# Altium schematic symbol library 74xGxx.SchLib: 165 symbols
Pins are listed as number, name and electrical type; pins without a type are passive.

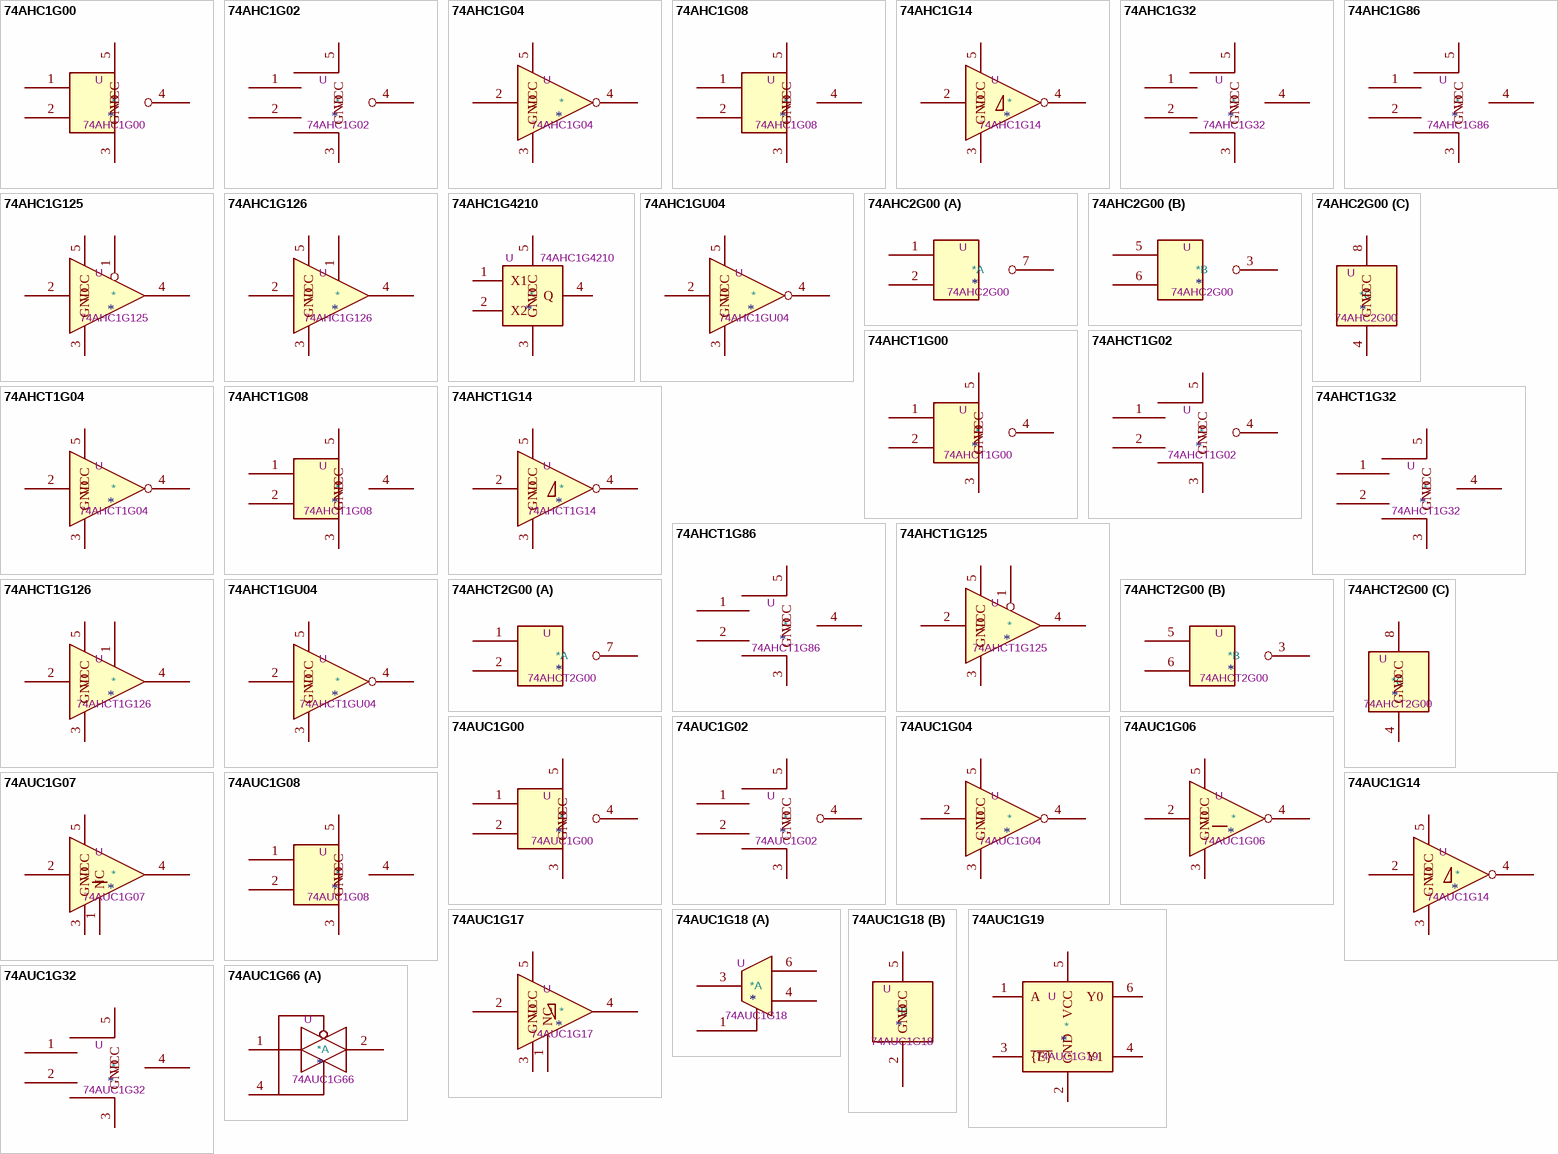
[diagram p0: symbols 74AHC1G00 to 74AUC1G66]

## 74AHC1G00
designator *  value 74AHC1G00  Reference: U
ki_keywords: Single Gate NAND LVC CMOS; ki_description: Single NAND Gate, Low-Voltage CMOS; ki_fp_filters: SOT* SG-*; Datasheet: http://www.ti.com/lit/sg/scyt129e/scyt129e.pdf
pins: 1, 2, 3 GND, 4, 5 VCC

## 74AHC1G02
designator *  value 74AHC1G02  Reference: U
ki_keywords: Single Gate NOR LVC CMOS; ki_description: Single NOR Gate, Low-Voltage CMOS; ki_fp_filters: SOT* SG-*; Datasheet: http://www.ti.com/lit/sg/scyt129e/scyt129e.pdf
pins: 1, 2, 3 GND, 4, 5 VCC

## 74AHC1G04
designator *  value 74AHC1G04  Reference: U
ki_keywords: Single Gate NOT LVC CMOS; ki_description: Single NOT Gate, Low-Voltage CMOS; ki_fp_filters: SOT* SG-*; Datasheet: http://www.ti.com/lit/sg/scyt129e/scyt129e.pdf
pins: 2, 3 GND, 4, 5 VCC

## 74AHC1G08
designator *  value 74AHC1G08  Reference: U
ki_keywords: Single Gate AND LVC CMOS; ki_description: Single AND Gate, Low-Voltage CMOS; ki_fp_filters: SOT* SG-*; Datasheet: http://www.ti.com/lit/sg/scyt129e/scyt129e.pdf
pins: 1, 2, 3 GND, 4, 5 VCC

## 74AHC1G14
designator *  value 74AHC1G14  Reference: U
ki_keywords: Single Gate NOT Schmitt LVC CMOS; ki_description: Single Schmitt NOT Gate, Low-Voltage CMOS; ki_fp_filters: SOT* SG-*; Datasheet: https://www.ti.com/lit/ds/symlink/sn74lvc1g14.pdf
pins: 2, 3 GND, 4, 5 VCC

## 74AHC1G32
designator *  value 74AHC1G32  Reference: U
ki_keywords: Single Gate OR LVC CMOS; ki_description: Single OR Gate, Low-Voltage CMOS; ki_fp_filters: SOT* SG-*; Datasheet: http://www.ti.com/lit/sg/scyt129e/scyt129e.pdf
pins: 1, 2, 3 GND, 4, 5 VCC

## 74AHC1G86
designator *  value 74AHC1G86  Reference: U
ki_keywords: Single Gate EX-OR LVC CMOS; ki_description: Single EX-OR Gate, Low-Voltage CMOS; ki_fp_filters: SOT* SG-*; Datasheet: http://www.ti.com/lit/sg/scyt129e/scyt129e.pdf
pins: 1, 2, 3 GND, 4, 5 VCC

## 74AHC1G125
designator *  value 74AHC1G125  Reference: U
ki_keywords: Single Gate Buff Tri-State LVC CMOS; ki_description: Single Buffer Gate Tri-State, Low-Voltage CMOS; ki_fp_filters: SOT* SG-*; Datasheet: http://www.ti.com/lit/sg/scyt129e/scyt129e.pdf
pins: 1, 2, 3 GND, 4, 5 VCC

## 74AHC1G126
designator *  value 74AHC1G126  Reference: U
ki_keywords: Single Gate Buff Tri-State LVC CMOS; ki_description: Single Buffer Gate Tri-State, Low-Voltage CMOS; ki_fp_filters: SOT* SG-*; Datasheet: http://www.ti.com/lit/sg/scyt129e/scyt129e.pdf
pins: 1, 2, 3 GND, 4, 5 VCC

## 74AHC1G4210
designator *  value 74AHC1G4210  Reference: U
ki_keywords: divider oscillator; ki_description: 10-stage divider and oscillator, SOT353-1; ki_fp_filters: SOT*353*; Footprint: Package_TO_SOT_SMD:SOT-353_SC-70-5; Datasheet: https://assets.nexperia.com/documents/data-sheet/74AHC1G4210.pdf
pins: 1 X1, 2 X2, 3 GND, 4 Q, 5 VCC

## 74AHC1GU04
designator *  value 74AHC1GU04  Reference: U
ki_keywords: Single Gate NOT LVC CMOS; ki_description: 74AHC1G04, Single NOT Gate, Low-Voltage CMOS; ki_fp_filters: SOT* SG-*; Datasheet: http://www.ti.com/lit/sg/scyt129e/scyt129e.pdf
pins: 2, 3 GND, 4, 5 VCC

## 74AHC2G00
designator *  value 74AHC2G00  Reference: U
ki_keywords: Dual Gate NAND LVC CMOS; ki_description: Dual NAND Gate, High-speed Si-gate CMOS; ki_fp_filters: SSOP* VSSOP*; Datasheet: https://assets.nexperia.com/documents/data-sheet/74AHC_AHCT2G00.pdf
part A pins: 1, 2, 7
part B pins: 3, 5, 6
part C pins: 4 GND, 8 VCC

## 74AHCT1G00
designator *  value 74AHCT1G00  Reference: U
ki_keywords: Single Gate NAND LVC CMOS; ki_description: Single NAND Gate, Low-Voltage CMOS; ki_fp_filters: SOT* SG-*; Datasheet: http://www.ti.com/lit/sg/scyt129e/scyt129e.pdf
pins: 1, 2, 3 GND, 4, 5 VCC

## 74AHCT1G02
designator *  value 74AHCT1G02  Reference: U
ki_keywords: Single Gate NOR LVC CMOS; ki_description: Single NOR Gate, Low-Voltage CMOS; ki_fp_filters: SOT* SG-*; Datasheet: http://www.ti.com/lit/sg/scyt129e/scyt129e.pdf
pins: 1, 2, 3 GND, 4, 5 VCC

## 74AHCT1G04
designator *  value 74AHCT1G04  Reference: U
ki_keywords: Single Gate NOT LVC CMOS; ki_description: Single NOT Gate, Low-Voltage CMOS; ki_fp_filters: SOT* SG-*; Datasheet: http://www.ti.com/lit/sg/scyt129e/scyt129e.pdf
pins: 2, 3 GND, 4, 5 VCC

## 74AHCT1G08
designator *  value 74AHCT1G08  Reference: U
ki_keywords: Single Gate AND LVC CMOS; ki_description: Single AND Gate, Low-Voltage CMOS; ki_fp_filters: SOT* SG-*; Datasheet: http://www.ti.com/lit/sg/scyt129e/scyt129e.pdf
pins: 1, 2, 3 GND, 4, 5 VCC

## 74AHCT1G14
designator *  value 74AHCT1G14  Reference: U
ki_keywords: Single Gate NOT Schmitt LVC CMOS; ki_description: Single Schmitt NOT Gate, Low-Voltage CMOS; ki_fp_filters: SOT* SG-*; Datasheet: http://www.ti.com/lit/sg/scyt129e/scyt129e.pdf
pins: 2, 3 GND, 4, 5 VCC

## 74AHCT1G32
designator *  value 74AHCT1G32  Reference: U
ki_keywords: Single Gate OR LVC CMOS; ki_description: Single OR Gate, Low-Voltage CMOS; ki_fp_filters: SOT* SG-*; Datasheet: http://www.ti.com/lit/sg/scyt129e/scyt129e.pdf
pins: 1, 2, 3 GND, 4, 5 VCC

## 74AHCT1G86
designator *  value 74AHCT1G86  Reference: U
ki_keywords: Single Gate EX-OR LVC CMOS; ki_description: Single EX-OR Gate, Low-Voltage CMOS; ki_fp_filters: SOT* SG-*; Datasheet: http://www.ti.com/lit/sg/scyt129e/scyt129e.pdf
pins: 1, 2, 3 GND, 4, 5 VCC

## 74AHCT1G125
designator *  value 74AHCT1G125  Reference: U
ki_keywords: Single Gate Buff Tri-State LVC CMOS; ki_description: Single Buffer Gate Tri-State, Low-Voltage CMOS; ki_fp_filters: SOT* SG-*; Datasheet: http://www.ti.com/lit/sg/scyt129e/scyt129e.pdf
pins: 1, 2, 3 GND, 4, 5 VCC

## 74AHCT1G126
designator *  value 74AHCT1G126  Reference: U
ki_keywords: Single Gate Buff Tri-State LVC CMOS; ki_description: Single Buffer Gate Tri-State, Low-Voltage CMOS; ki_fp_filters: SOT* SG-*; Datasheet: http://www.ti.com/lit/sg/scyt129e/scyt129e.pdf
pins: 1, 2, 3 GND, 4, 5 VCC

## 74AHCT1GU04
designator *  value 74AHCT1GU04  Reference: U
ki_keywords: Single Gate NOT LVC CMOS; ki_description: 74AHCT1G04, Single NOT Gate, Low-Voltage CMOS; ki_fp_filters: SOT* SG-*; Datasheet: http://www.ti.com/lit/sg/scyt129e/scyt129e.pdf
pins: 2, 3 GND, 4, 5 VCC

## 74AHCT2G00
designator *  value 74AHCT2G00  Reference: U
ki_keywords: Dual Gate NAND LVC CMOS; ki_description: Dual NAND Gate, TTL input High-speed Si-gate CMOS; ki_fp_filters: SSOP* VSSOP*; Datasheet: https://assets.nexperia.com/documents/data-sheet/74AHC_AHCT2G00.pdf
part A pins: 1, 2, 7
part B pins: 3, 5, 6
part C pins: 4 GND, 8 VCC

## 74AUC1G00
designator *  value 74AUC1G00  Reference: U
ki_keywords: Single Gate NAND LVC CMOS; ki_description: Single NAND Gate, Low-Voltage CMOS; ki_fp_filters: SOT* SG-*; Datasheet: http://www.ti.com/lit/sg/scyt129e/scyt129e.pdf
pins: 1, 2, 3 GND, 4, 5 VCC

## 74AUC1G02
designator *  value 74AUC1G02  Reference: U
ki_keywords: Single Gate NOR LVC CMOS; ki_description: Single NOR Gate, Low-Voltage CMOS; ki_fp_filters: SOT* SG-*; Datasheet: http://www.ti.com/lit/sg/scyt129e/scyt129e.pdf
pins: 1, 2, 3 GND, 4, 5 VCC

## 74AUC1G04
designator *  value 74AUC1G04  Reference: U
ki_keywords: Single Gate NOT LVC CMOS; ki_description: Single NOT Gate, Low-Voltage CMOS; ki_fp_filters: SOT* SG-*; Datasheet: http://www.ti.com/lit/sg/scyt129e/scyt129e.pdf
pins: 2, 3 GND, 4, 5 VCC

## 74AUC1G06
designator *  value 74AUC1G06  Reference: U
ki_keywords: Single Gate NOT LVC CMOS Open Drain; ki_description: Single NOT Gate w/ Open Drain, Low-Voltage CMOS; ki_fp_filters: SOT* SG-*; Datasheet: http://www.ti.com/lit/sg/scyt129e/scyt129e.pdf
pins: 2, 3 GND, 4, 5 VCC

## 74AUC1G07
designator *  value 74AUC1G07  Reference: U
ki_keywords: Single Gate Buff LVC CMOS Open Drain; ki_description: Single Buffer Gate w/ Open Drain, Low-Voltage CMOS; ki_fp_filters: SOT* SG-*; Datasheet: http://www.ti.com/lit/sg/scyt129e/scyt129e.pdf
pins: 1 NC, 2, 3 GND, 4, 5 VCC

## 74AUC1G08
designator *  value 74AUC1G08  Reference: U
ki_keywords: Single Gate AND LVC CMOS; ki_description: Single AND Gate, Low-Voltage CMOS; ki_fp_filters: SOT* SG-*; Datasheet: http://www.ti.com/lit/sg/scyt129e/scyt129e.pdf
pins: 1, 2, 3 GND, 4, 5 VCC

## 74AUC1G14
designator *  value 74AUC1G14  Reference: U
ki_keywords: Single Gate NOT Schmitt LVC CMOS; ki_description: Single Schmitt NOT Gate, Low-Voltage CMOS; ki_fp_filters: SOT* SG-*; Datasheet: http://www.ti.com/lit/sg/scyt129e/scyt129e.pdf
pins: 2, 3 GND, 4, 5 VCC

## 74AUC1G17
designator *  value 74AUC1G17  Reference: U
ki_keywords: Single Gate Buff Schmitt LVC CMOS; ki_description: Single Schmitt Buffer Gate, Low-Voltage CMOS; ki_fp_filters: SOT* SG-*; Datasheet: http://www.ti.com/lit/sg/scyt129e/scyt129e.pdf
pins: 1 NC, 2, 3 GND, 4, 5 VCC

## 74AUC1G18
designator *  value 74AUC1G18  Reference: U
ki_keywords: Single Demux LVC CMOS; ki_description: Single Demultiplexer, Low-Voltage CMOS; ki_fp_filters: SOT* SG-*; Datasheet: http://www.ti.com/lit/sg/scyt129e/scyt129e.pdf
part A pins: 1, 3, 4, 6
part B pins: 2 GND, 5 VCC

## 74AUC1G19
designator *  value 74AUC1G19  Reference: U
ki_keywords: Single Decoder LVC CMOS; ki_description: Single 1 of 2 Decoder, Low-Voltage CMOS; ki_fp_filters: SOT* SG-*; Datasheet: http://www.ti.com/lit/sg/scyt129e/scyt129e.pdf
pins: 1 A, 2 GND, 3 ~{{E}}, 4 Y1, 5 VCC, 6 Y0

## 74AUC1G32
designator *  value 74AUC1G32  Reference: U
ki_keywords: Single Gate OR LVC CMOS; ki_description: Single OR Gate, Low-Voltage CMOS; ki_fp_filters: SOT* SG-*; Datasheet: http://www.ti.com/lit/sg/scyt129e/scyt129e.pdf
pins: 1, 2, 3 GND, 4, 5 VCC

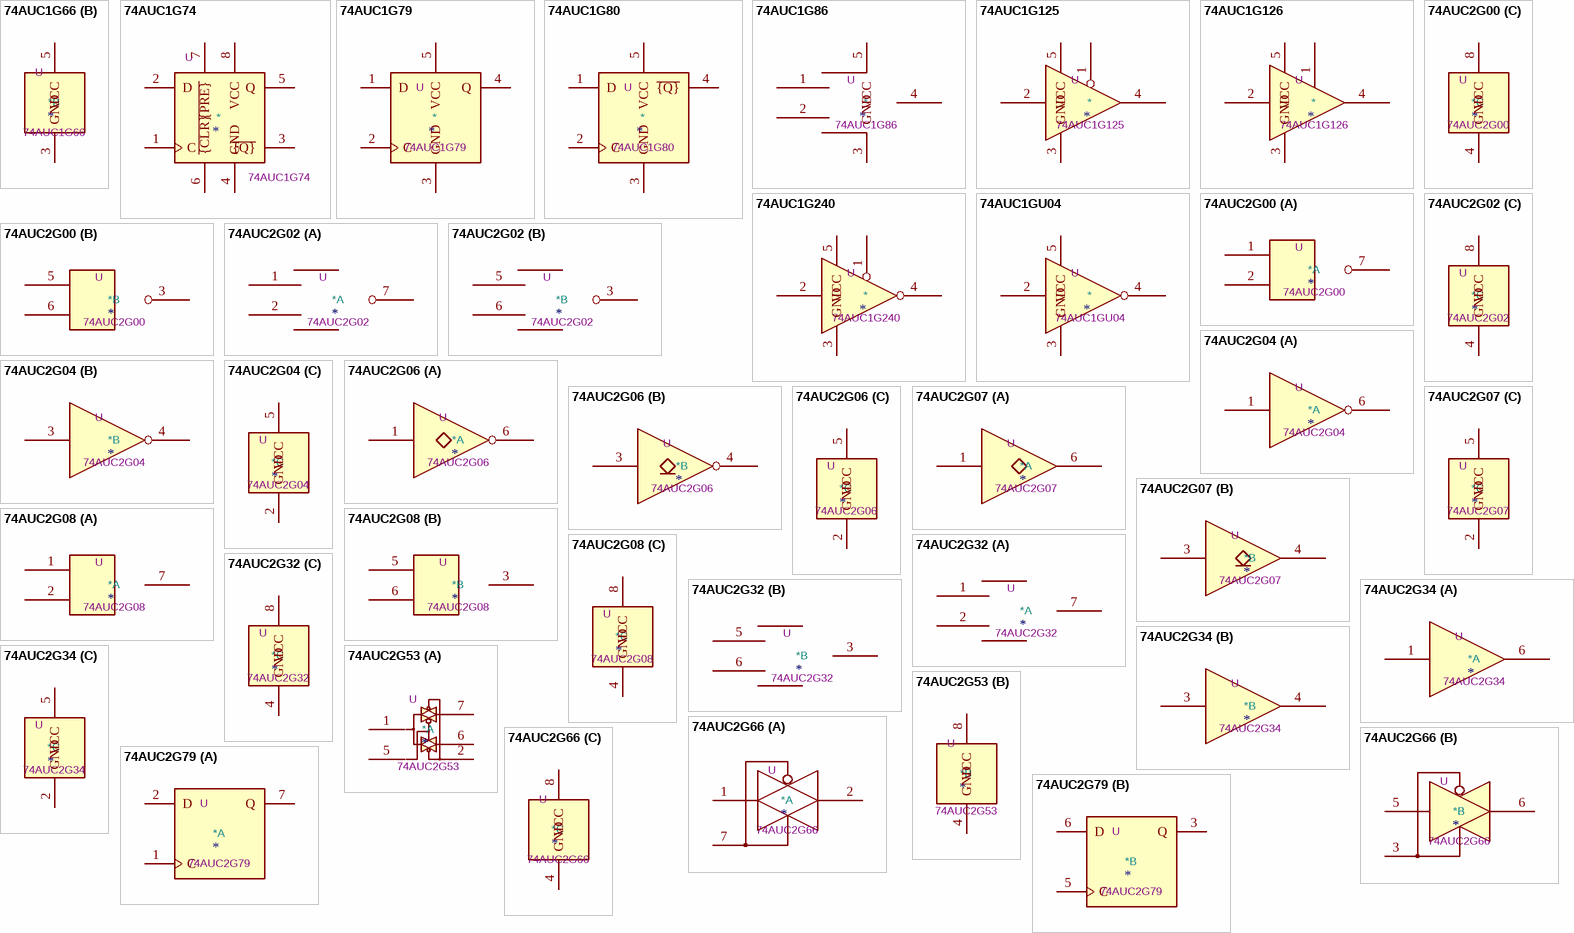
[diagram p1: symbols 74AUC1G66 to 74AUC2G79]

## 74AUC1G66
designator *  value 74AUC1G66  Reference: U
ki_keywords: Single Bilateral Analog Switch; ki_description: Single Bilateral Analog Switch, SOT-23-5/SC-70-5; ki_fp_filters: SOT* SC*; Datasheet: http://www.ti.com/lit/ds/symlink/sn74auc1g66.pdf
part A pins: 1, 2, 4
part B pins: 3 GND, 5 VCC

## 74AUC1G74
designator *  value 74AUC1G74  Reference: U
ki_keywords: Single D Flip-Flop D CMOS; ki_description: Single D Flip-Flop, Low-Voltage CMOS; ki_fp_filters: SSOP* VSSOP*; Datasheet: http://www.ti.com/lit/sg/scyt129e/scyt129e.pdf
pins: 1 C, 2 D, 3 ~{{Q}}, 4 GND, 5 Q, 6 ~{{CLR}}, 7 ~{{PRE}}, 8 VCC

## 74AUC1G79
designator *  value 74AUC1G79  Reference: U
ki_keywords: Single D Flip-Flop D CMOS; ki_description: Single D Flip-Flop, Low-Voltage CMOS; ki_fp_filters: SOT* SG*; Datasheet: http://www.ti.com/lit/sg/scyt129e/scyt129e.pdf
pins: 1 D, 2 C, 3 GND, 4 Q, 5 VCC

## 74AUC1G80
designator *  value 74AUC1G80  Reference: U
ki_keywords: Single D Flip-Flop CMOS; ki_description: Single D Flip-Flop Iverted Output, Low-Voltage CMOS; ki_fp_filters: SOT* SG*; Datasheet: http://www.ti.com/lit/sg/scyt129e/scyt129e.pdf
pins: 1 D, 2 C, 3 GND, 4 ~{{Q}}, 5 VCC

## 74AUC1G86
designator *  value 74AUC1G86  Reference: U
ki_keywords: Single Gate EX-OR LVC CMOS; ki_description: Single EX-OR Gate, Low-Voltage CMOS; ki_fp_filters: SOT* SG-*; Datasheet: http://www.ti.com/lit/sg/scyt129e/scyt129e.pdf
pins: 1, 2, 3 GND, 4, 5 VCC

## 74AUC1G125
designator *  value 74AUC1G125  Reference: U
ki_keywords: Single Gate Buff Tri-State LVC CMOS; ki_description: Single Buffer Gate Tri-State, Low-Voltage CMOS; ki_fp_filters: SOT* SG-*; Datasheet: http://www.ti.com/lit/sg/scyt129e/scyt129e.pdf
pins: 1, 2, 3 GND, 4, 5 VCC

## 74AUC1G126
designator *  value 74AUC1G126  Reference: U
ki_keywords: Single Gate Buff Tri-State LVC CMOS; ki_description: Single Buffer Gate Tri-State, Low-Voltage CMOS; ki_fp_filters: SOT* SG-*; Datasheet: http://www.ti.com/lit/sg/scyt129e/scyt129e.pdf
pins: 1, 2, 3 GND, 4, 5 VCC

## 74AUC1G240
designator *  value 74AUC1G240  Reference: U
ki_keywords: Single Gate Buff/Drv Tri-State LVC CMOS; ki_description: Single Buffer/Driver Gate Tri-State, Low-Voltage CMOS; ki_fp_filters: SOT* SG-*; Datasheet: http://www.ti.com/lit/sg/scyt129e/scyt129e.pdf
pins: 1, 2, 3 GND, 4, 5 VCC

## 74AUC1GU04
designator *  value 74AUC1GU04  Reference: U
ki_keywords: Single Gate NOT LVC CMOS; ki_description: 74AUC1G04, Single NOT Gate, Low-Voltage CMOS; ki_fp_filters: SOT* SG-*; Datasheet: http://www.ti.com/lit/sg/scyt129e/scyt129e.pdf
pins: 2, 3 GND, 4, 5 VCC

## 74AUC2G00
designator *  value 74AUC2G00  Reference: U
ki_keywords: Dual Gate NAND LVC CMOS; ki_description: Dual NAND Gate, Low-Voltage CMOS; ki_fp_filters: SSOP* VSSOP*; Datasheet: http://www.ti.com/lit/sg/scyt129e/scyt129e.pdf
part A pins: 1, 2, 7
part B pins: 3, 5, 6
part C pins: 4 GND, 8 VCC

## 74AUC2G02
designator *  value 74AUC2G02  Reference: U
ki_keywords: Dual Gate NOR LVC CMOS; ki_description: Dual NOR Gate, Low-Voltage CMOS; ki_fp_filters: SSOP* VSSOP*; Datasheet: http://www.ti.com/lit/sg/scyt129e/scyt129e.pdf
part A pins: 1, 2, 7
part B pins: 3, 5, 6
part C pins: 4 GND, 8 VCC

## 74AUC2G04
designator *  value 74AUC2G04  Reference: U
ki_keywords: Dual Gate NOT LVC CMOS; ki_description: Dual NOT Gate, Low-Voltage CMOS; ki_fp_filters: SG-* SOT*; Datasheet: http://www.ti.com/lit/sg/scyt129e/scyt129e.pdf
part A pins: 1, 6
part B pins: 3, 4
part C pins: 2 GND, 5 VCC

## 74AUC2G06
designator *  value 74AUC2G06  Reference: U
ki_keywords: Dual Gate NOT Open Drain LVC CMOS; ki_description: Dual NOT Gate w/ Open Drain, Low-Voltage CMOS; ki_fp_filters: SG-* SOT*; Datasheet: http://www.ti.com/lit/sg/scyt129e/scyt129e.pdf
part A pins: 1, 6
part B pins: 3, 4
part C pins: 2 GND, 5 VCC

## 74AUC2G07
designator *  value 74AUC2G07  Reference: U
ki_keywords: Dual Gate Buffer Open Drain LVC CMOS; ki_description: Dual Buffer w/ Open Drain, Low-Voltage CMOS; ki_fp_filters: SG-* SOT*; Datasheet: http://www.ti.com/lit/sg/scyt129e/scyt129e.pdf
part A pins: 1, 6
part B pins: 3, 4
part C pins: 2 GND, 5 VCC

## 74AUC2G08
designator *  value 74AUC2G08  Reference: U
ki_keywords: Dual Gate AND LVC CMOS; ki_description: Dual AND Gate, Low-Voltage CMOS; ki_fp_filters: SSOP* VSSOP*; Datasheet: http://www.ti.com/lit/sg/scyt129e/scyt129e.pdf
part A pins: 1, 2, 7
part B pins: 3, 5, 6
part C pins: 4 GND, 8 VCC

## 74AUC2G32
designator *  value 74AUC2G32  Reference: U
ki_keywords: Dual Gate OR LVC CMOS; ki_description: Dual OR Gate, Low-Voltage CMOS; ki_fp_filters: SSOP* VSSOP*; Datasheet: http://www.ti.com/lit/sg/scyt129e/scyt129e.pdf
part A pins: 1, 2, 7
part B pins: 3, 5, 6
part C pins: 4 GND, 8 VCC

## 74AUC2G34
designator *  value 74AUC2G34  Reference: U
ki_keywords: Dual Buffer LVC CMOS; ki_description: Dual Buffer, Low-Voltage CMOS; ki_fp_filters: SG-* SOT*; Datasheet: http://www.ti.com/lit/sg/scyt129e/scyt129e.pdf
part A pins: 1, 6
part B pins: 3, 4
part C pins: 2 GND, 5 VCC

## 74AUC2G53
designator *  value 74AUC2G53  Reference: U
ki_keywords: Analog Switch 1 to 2 CMOS; ki_description: 1 to 2 Analog Switch Mux/Demux, Low-Voltage CMOS; ki_fp_filters: SSOP* VSSOP*; Datasheet: http://www.ti.com/lit/sg/scyt129e/scyt129e.pdf
part A pins: 1, 2, 5, 6, 7
part B pins: 3 GND hidden, 4 GND, 8 VCC

## 74AUC2G66
designator *  value 74AUC2G66  Reference: U
ki_keywords: Dual Analog Switch; ki_fp_filters: SSOP* VSSOP*; Datasheet: http://www.ti.com/lit/sg/scyt129e/scyt129e.pdf; ki_description: Dual Analog Switch
part A pins: 1, 2, 7
part B pins: 3, 5, 6
part C pins: 4 GND, 8 VCC

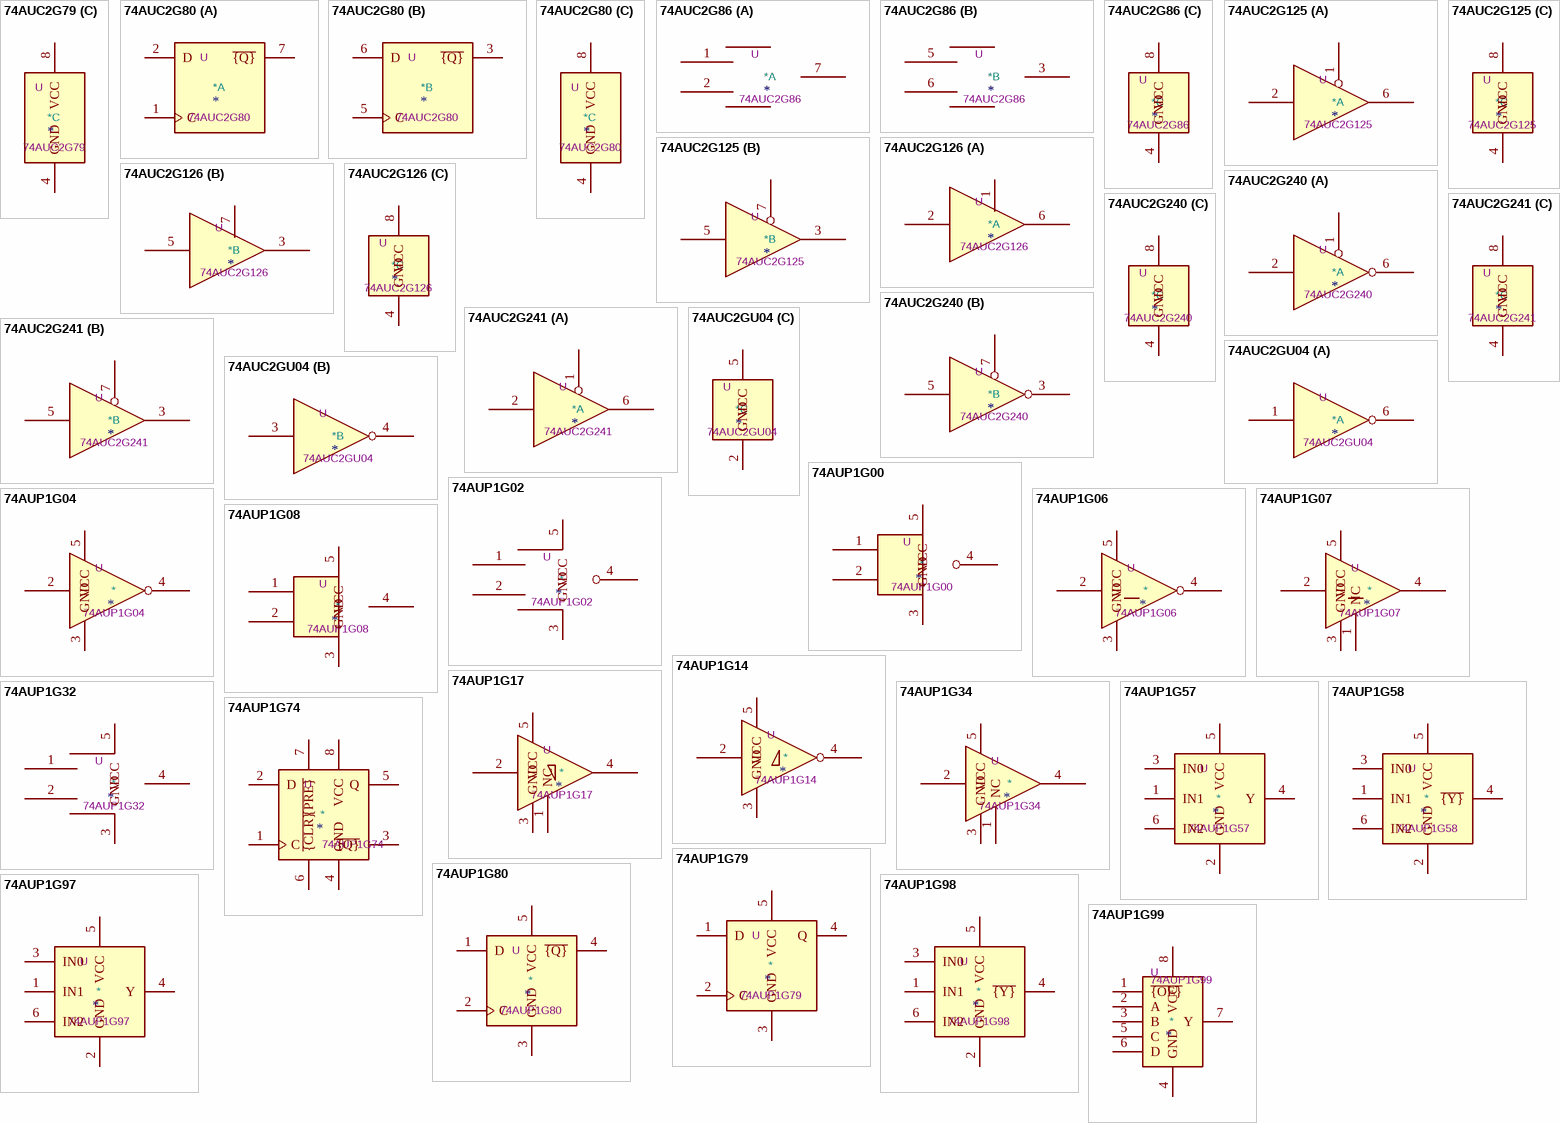
[diagram p2: symbols 74AUC2G79 to 74AUP1G99]

## 74AUC2G79
designator *  value 74AUC2G79  Reference: U
ki_keywords: Dual D Flip-Flop D CMOS; ki_description: Dual D Flip-Flop, Low-Voltage CMOS; ki_fp_filters: SSOP* VSSOP*; Datasheet: http://www.ti.com/lit/sg/scyt129e/scyt129e.pdf
part A pins: 1 C, 2 D, 7 Q
part B pins: 3 Q, 5 C, 6 D
part C pins: 4 GND, 8 VCC

## 74AUC2G80
designator *  value 74AUC2G80  Reference: U
ki_keywords: Dual D Flip-Flop Negative CMOS; ki_description: Dual D Flip-Flop w/ Negative Output, Low-Voltage CMOS; ki_fp_filters: SSOP* VSSOP*; Datasheet: http://www.ti.com/lit/sg/scyt129e/scyt129e.pdf
part A pins: 1 C, 2 D, 7 ~{{Q}}
part B pins: 3 ~{{Q}}, 5 C, 6 D
part C pins: 4 GND, 8 VCC

## 74AUC2G86
designator *  value 74AUC2G86  Reference: U
ki_keywords: Dual Gate EX-OR LVC CMOS; ki_description: Dual EX-OR Gate, Low-Voltage CMOS; ki_fp_filters: SSOP* VSSOP*; Datasheet: http://www.ti.com/lit/sg/scyt129e/scyt129e.pdf
part A pins: 1, 2, 7
part B pins: 3, 5, 6
part C pins: 4 GND, 8 VCC

## 74AUC2G125
designator *  value 74AUC2G125  Reference: U
ki_keywords: Dual Buff Tri-State LVC CMOS; ki_description: Dual Buffer Tri-State, Low-Voltage CMOS; ki_fp_filters: VSSOP*; Datasheet: http://www.ti.com/lit/sg/scyt129e/scyt129e.pdf
part A pins: 1, 2, 6
part B pins: 3, 5, 7
part C pins: 4 GND, 8 VCC

## 74AUC2G126
designator *  value 74AUC2G126  Reference: U
ki_keywords: Dual Buff Tri-State LVC CMOS; ki_description: Dual Buffer Tri-State, Low-Voltage CMOS; ki_fp_filters: VSSOP*; Datasheet: http://www.ti.com/lit/sg/scyt129e/scyt129e.pdf
part A pins: 1, 2, 6
part B pins: 3, 5, 7
part C pins: 4 GND, 8 VCC

## 74AUC2G240
designator *  value 74AUC2G240  Reference: U
ki_keywords: Dual Inv Buff Tri-State LVC CMOS; ki_description: Dual Inverter Buffer Tri-State, Low-Voltage CMOS; ki_fp_filters: VSSOP*; Datasheet: http://www.ti.com/lit/sg/scyt129e/scyt129e.pdf
part A pins: 1, 2, 6
part B pins: 3, 5, 7
part C pins: 4 GND, 8 VCC

## 74AUC2G241
designator *  value 74AUC2G241  Reference: U
ki_keywords: Dual Buff Tri-State LVC CMOS; ki_description: Dual Buffer Tri-State, Low-Voltage CMOS; ki_fp_filters: VSSOP*; Datasheet: http://www.ti.com/lit/sg/scyt129e/scyt129e.pdf
part A pins: 1, 2, 6
part B pins: 3, 5, 7
part C pins: 4 GND, 8 VCC

## 74AUC2GU04
designator *  value 74AUC2GU04  Reference: U
ki_keywords: Dual Gate NOT LVC CMOS; ki_description: 74AUC2G04, Dual NOT Gate, Low-Voltage CMOS; ki_fp_filters: SG-* SOT*; Datasheet: http://www.ti.com/lit/sg/scyt129e/scyt129e.pdf
part A pins: 1, 6
part B pins: 3, 4
part C pins: 2 GND, 5 VCC

## 74AUP1G00
designator *  value 74AUP1G00  Reference: U
ki_keywords: Single Gate NAND LVC CMOS; ki_description: Single NAND Gate, Low-Voltage CMOS; ki_fp_filters: SOT?23* Texas?R-PDSO-G5?DCK* Texas?R-PDSO-N5?DRL* Texas?X2SON*0.8x0.8mm*P0.48mm*; Datasheet: https://www.ti.com/lit/ds/symlink/sn74aup1g00.pdf
pins: 1, 2, 3 GND, 4, 5 VCC

## 74AUP1G02
designator *  value 74AUP1G02  Reference: U
ki_keywords: Single Gate NOR LVC CMOS; ki_description: Single NOR Gate, Low-Voltage CMOS; ki_fp_filters: SOT?23* Texas?R-PDSO-G5?DCK* Texas?R-PDSO-N5?DRL* Texas?X2SON*0.8x0.8mm*P0.48mm*; Datasheet: https://www.ti.com/lit/ds/symlink/sn74aup1g02.pdf
pins: 1, 2, 3 GND, 4, 5 VCC

## 74AUP1G04
designator *  value 74AUP1G04  Reference: U
ki_keywords: Single Gate NOT LVC CMOS; ki_description: Single NOT Gate, Low-Voltage CMOS; ki_fp_filters: SOT?23* Texas?R-PDSO-G5?DCK* Texas?R-PDSO-N5?DRL* Texas?X2SON*0.8x0.8mm*P0.48mm*; Datasheet: https://www.ti.com/lit/ds/symlink/sn74aup1g04.pdf
pins: 2, 3 GND, 4, 5 VCC

## 74AUP1G06
designator *  value 74AUP1G06  Reference: U
ki_keywords: Single Gate NOT LVC CMOS Open Drain; ki_description: Single NOT Gate w/ Open Drain, Low-Voltage CMOS; ki_fp_filters: SOT* SG-*; Datasheet: http://www.ti.com/lit/sg/scyt129e/scyt129e.pdf
pins: 2, 3 GND, 4, 5 VCC

## 74AUP1G07
designator *  value 74AUP1G07  Reference: U
ki_keywords: Single Gate Buff LVC CMOS Open Drain; ki_description: Single Buffer Gate w/ Open Drain, Low-Voltage CMOS; ki_fp_filters: SOT?23* Texas?R-PDSO-G5?DCK* Texas?R-PDSO-N5?DRL* Texas?X2SON*0.8x0.8mm*P0.48mm*; Datasheet: https://www.ti.com/lit/ds/symlink/sn74aup1g07
pins: 1 NC, 2, 3 GND, 4, 5 VCC

## 74AUP1G08
designator *  value 74AUP1G08  Reference: U
ki_keywords: Single Gate AND LVC CMOS; ki_description: Single AND Gate, Low-Voltage CMOS; ki_fp_filters: SOT?23* Texas?R-PDSO-G5?DCK* Texas?R-PDSO-N5?DRL* Texas?X2SON*0.8x0.8mm*P0.48mm*; Datasheet: https://www.ti.com/lit/ds/symlink/sn74aup1g08.pdf
pins: 1, 2, 3 GND, 4, 5 VCC

## 74AUP1G14
designator *  value 74AUP1G14  Reference: U
ki_keywords: Single Gate NOT Schmitt LVC CMOS; ki_description: Single Schmitt NOT Gate, Low-Voltage CMOS; ki_fp_filters: SOT* SG-*; Datasheet: http://www.ti.com/lit/sg/scyt129e/scyt129e.pdf
pins: 2, 3 GND, 4, 5 VCC

## 74AUP1G17
designator *  value 74AUP1G17  Reference: U
ki_keywords: Single Gate Buff Schmitt LVC CMOS; ki_description: Single Schmitt Buffer Gate, Low-Voltage CMOS; ki_fp_filters: SOT* SG-*; Datasheet: http://www.ti.com/lit/sg/scyt129e/scyt129e.pdf
pins: 1 NC, 2, 3 GND, 4, 5 VCC

## 74AUP1G32
designator *  value 74AUP1G32  Reference: U
ki_keywords: Single Gate OR LVC CMOS; ki_description: Single OR Gate, Low-Voltage CMOS; ki_fp_filters: SOT?23* Texas?R-PDSO-G5?DCK* Texas?R-PDSO-N5?DRL* Texas?X2SON*0.8x0.8mm*P0.48mm*; Datasheet: https://www.ti.com/lit/ds/symlink/sn74aup1g32.pdf
pins: 1, 2, 3 GND, 4, 5 VCC

## 74AUP1G34
designator *  value 74AUP1G34  Reference: U
ki_keywords: Single Gate Buff LVC CMOS; ki_description: Single Buffef Gate, Low-Voltage CMOS; ki_fp_filters: SOT?23* Texas?R-PDSO-G5?DCK* Texas?R-PDSO-N5?DRL* Texas?X2SON*0.8x0.8mm*P0.48mm*; Datasheet: https://www.ti.com/lit/ds/symlink/sn74aup1g34.pdf
pins: 1 NC, 2, 3 GND, 4, 5 VCC

## 74AUP1G57
designator *  value 74AUP1G57  Reference: U
ki_keywords: Configurable Single Gate LVC CMOS; ki_description: Configurable Multi-Function Single Gate, Low-Voltage CMOS; ki_fp_filters: SOT* SC*; Datasheet: http://www.ti.com/lit/sg/scyt129e/scyt129e.pdf
pins: 1 IN1, 2 GND, 3 IN0, 4 Y, 5 VCC, 6 IN2

## 74AUP1G58
designator *  value 74AUP1G58  Reference: U
ki_keywords: Configurable Single Gate LVC CMOS; ki_description: 74LAUP1G58, Configurable Multi-Function Single Gate, Low-Voltage CMOS; ki_fp_filters: SOT* SC*; Datasheet: http://www.ti.com/lit/sg/scyt129e/scyt129e.pdf
pins: 1 IN1, 2 GND, 3 IN0, 4 ~{{Y}}, 5 VCC, 6 IN2

## 74AUP1G74
designator *  value 74AUP1G74  Reference: U
ki_keywords: Single D Flip-Flop D CMOS; ki_description: Single D Flip-Flop, Low-Voltage CMOS; ki_fp_filters: SSOP* VSSOP*; Datasheet: http://www.ti.com/lit/sg/scyt129e/scyt129e.pdf
pins: 1 C, 2 D, 3 ~{{Q}}, 4 GND, 5 Q, 6 ~{{CLR}}, 7 ~{{PRE}}, 8 VCC

## 74AUP1G79
designator *  value 74AUP1G79  Reference: U
ki_keywords: Single D Flip-Flop D CMOS; ki_description: Single D Flip-Flop, Low-Voltage CMOS; ki_fp_filters: SOT* SG*; Datasheet: http://www.ti.com/lit/sg/scyt129e/scyt129e.pdf
pins: 1 D, 2 C, 3 GND, 4 Q, 5 VCC

## 74AUP1G80
designator *  value 74AUP1G80  Reference: U
ki_keywords: Single D Flip-Flop CMOS; ki_description: Single D Flip-Flop Iverted Output, Low-Voltage CMOS; ki_fp_filters: SOT* SG*; Datasheet: http://www.ti.com/lit/sg/scyt129e/scyt129e.pdf
pins: 1 D, 2 C, 3 GND, 4 ~{{Q}}, 5 VCC

## 74AUP1G97
designator *  value 74AUP1G97  Reference: U
ki_keywords: Configurable Single Gate LVC CMOS; ki_description: Configurable Multi-Function Single Gate, Low-Voltage CMOS; ki_fp_filters: SOT* SC*; Datasheet: http://www.ti.com/lit/sg/scyt129e/scyt129e.pdf
pins: 1 IN1, 2 GND, 3 IN0, 4 Y, 5 VCC, 6 IN2

## 74AUP1G98
designator *  value 74AUP1G98  Reference: U
ki_keywords: Configurable Single Gate LVC CMOS; ki_description: Configurable Multi-Function Single Gate, Low-Voltage CMOS; ki_fp_filters: SOT* SC*; Datasheet: http://www.ti.com/lit/sg/scyt129e/scyt129e.pdf
pins: 1 IN1, 2 GND, 3 IN0, 4 ~{{Y}}, 5 VCC, 6 IN2

## 74AUP1G99
designator *  value 74AUP1G99  Reference: U
ki_keywords: Configurable Single Gate LVC CMOS; ki_description: Configurable Multi-Function Single Gate, Low-Voltage CMOS; ki_fp_filters: SSOP* VSSOP*; Datasheet: http://www.ti.com/lit/sg/scyt129e/scyt129e.pdf
pins: 1 ~{{OE}}, 2 A, 3 B, 4 GND, 5 C, 6 D, 7 Y, 8 VCC

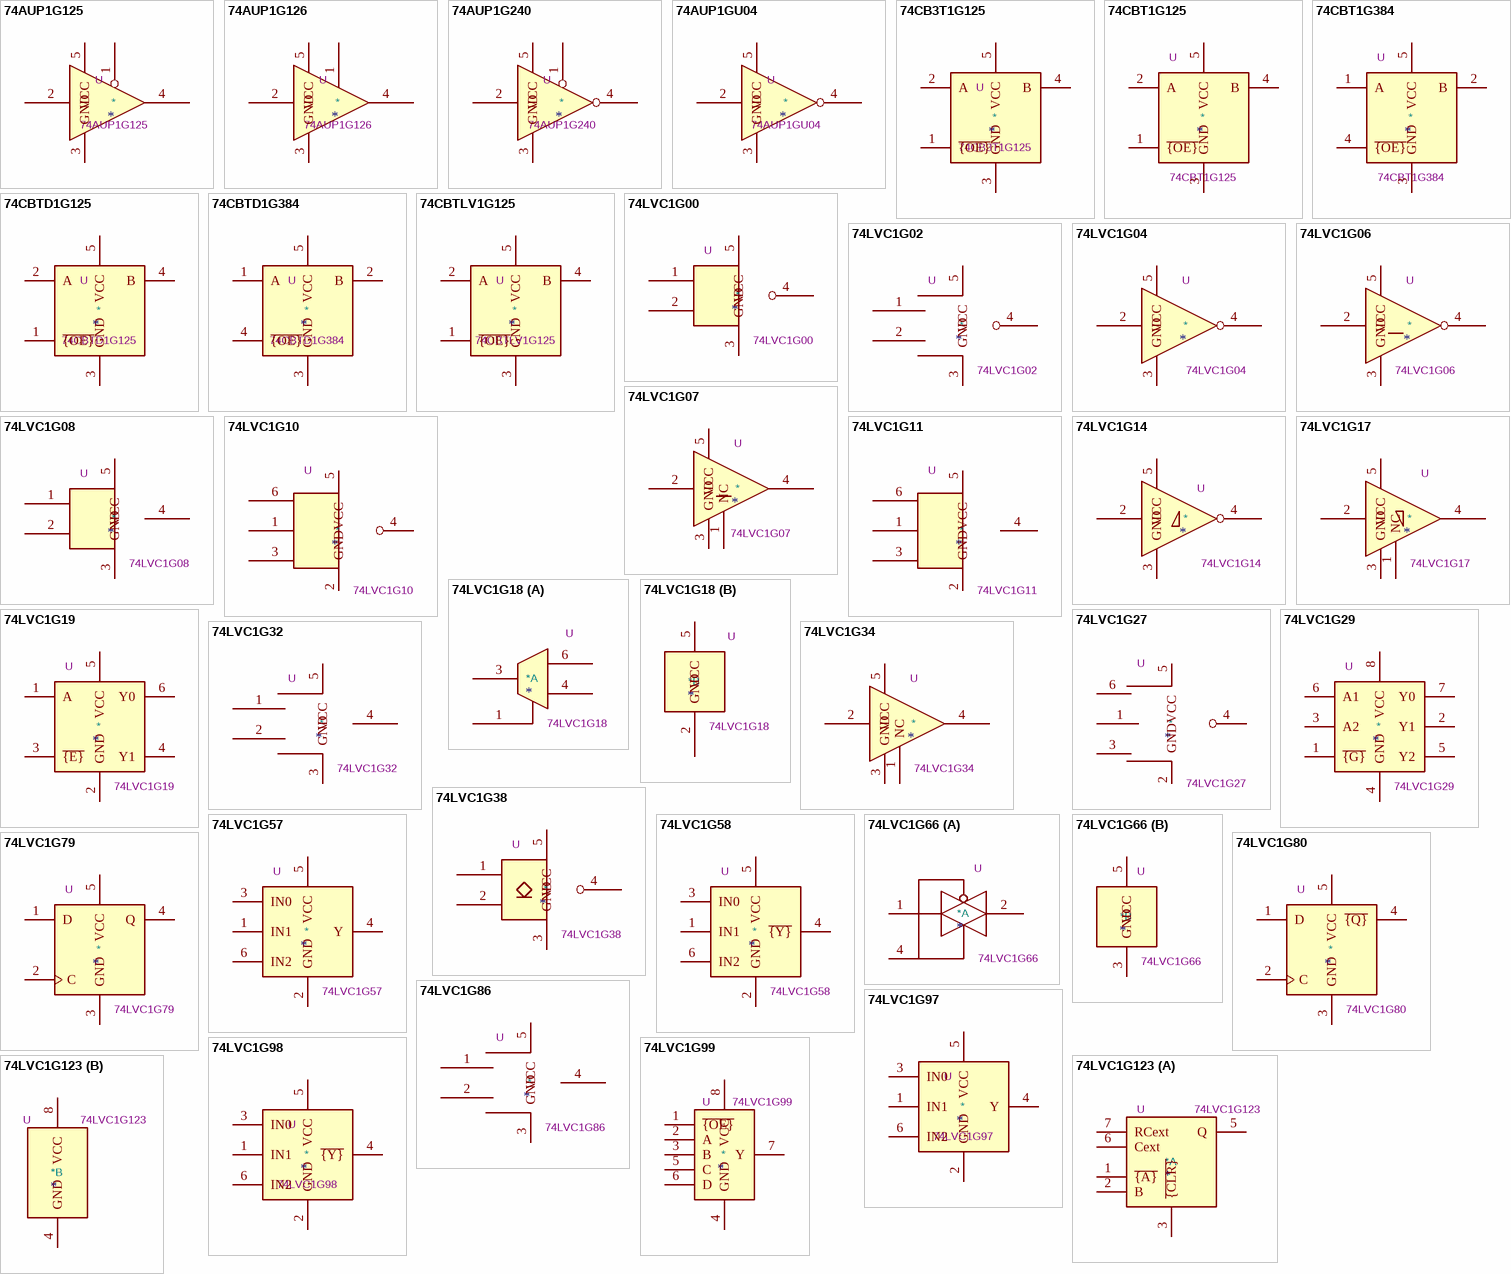
[diagram p3: symbols 74AUP1G125 to 74LVC1G123]

## 74AUP1G125
designator *  value 74AUP1G125  Reference: U
ki_keywords: Single Gate Buff Tri-State LVC CMOS; ki_description: Single Buffer Gate Tri-State, Low-Voltage CMOS; ki_fp_filters: SOT* SG-*; Datasheet: http://www.ti.com/lit/sg/scyt129e/scyt129e.pdf
pins: 1, 2, 3 GND, 4, 5 VCC

## 74AUP1G126
designator *  value 74AUP1G126  Reference: U
ki_keywords: Single Gate Buff Tri-State LVC CMOS; ki_description: Single Buffer Gate Tri-State, Low-Voltage CMOS; ki_fp_filters: SOT* SG-*; Datasheet: http://www.ti.com/lit/sg/scyt129e/scyt129e.pdf
pins: 1, 2, 3 GND, 4, 5 VCC

## 74AUP1G240
designator *  value 74AUP1G240  Reference: U
ki_keywords: Single Gate Buff/Drv Tri-State LVC CMOS; ki_description: Single Buffer/Driver Gate Tri-State, Low-Voltage CMOS; ki_fp_filters: SOT* SG-*; Datasheet: http://www.ti.com/lit/sg/scyt129e/scyt129e.pdf
pins: 1, 2, 3 GND, 4, 5 VCC

## 74AUP1GU04
designator *  value 74AUP1GU04  Reference: U
ki_keywords: Single Gate NOT LVC CMOS; ki_description: 74AUP1G04, Single NOT Gate, Low-Voltage CMOS; ki_fp_filters: SOT* SG-*; Datasheet: http://www.ti.com/lit/sg/scyt129e/scyt129e.pdf
pins: 2, 3 GND, 4, 5 VCC

## 74CB3T1G125
designator *  value 74CB3T1G125  Reference: U
ki_keywords: Single FET Bus Switch; ki_fp_filters: SOT* SC*; Datasheet: http://www.ti.com/lit/sg/scyt129e/scyt129e.pdf; ki_description: Single FET Bus Switch
pins: 1 ~{{OE}}, 2 A, 3 GND, 4 B, 5 VCC

## 74CBT1G125
designator *  value 74CBT1G125  Reference: U
ki_keywords: Single FET Bus Switch; ki_fp_filters: SOT* SC*; Datasheet: http://www.ti.com/lit/sg/scyt129e/scyt129e.pdf; ki_description: Single FET Bus Switch
pins: 1 ~{{OE}}, 2 A, 3 GND, 4 B, 5 VCC

## 74CBT1G384
designator *  value 74CBT1G384  Reference: U
ki_keywords: Single FET Bus Switch; ki_fp_filters: SOT* SC*; Datasheet: http://www.ti.com/lit/sg/scyt129e/scyt129e.pdf; ki_description: Single FET Bus Switch
pins: 1 A, 2 B, 3 GND, 4 ~{{OE}}, 5 VCC

## 74CBTD1G125
designator *  value 74CBTD1G125  Reference: U
ki_keywords: Single FET Bus Switch; ki_fp_filters: SOT* SC*; Datasheet: http://www.ti.com/lit/sg/scyt129e/scyt129e.pdf; ki_description: Single FET Bus Switch
pins: 1 ~{{OE}}, 2 A, 3 GND, 4 B, 5 VCC

## 74CBTD1G384
designator *  value 74CBTD1G384  Reference: U
ki_keywords: Single FET Bus Switch; ki_fp_filters: SOT* SC*; Datasheet: http://www.ti.com/lit/sg/scyt129e/scyt129e.pdf; ki_description: Single FET Bus Switch
pins: 1 A, 2 B, 3 GND, 4 ~{{OE}}, 5 VCC

## 74CBTLV1G125
designator *  value 74CBTLV1G125  Reference: U
ki_keywords: Single FET Bus Switch; ki_fp_filters: SOT* SC*; Datasheet: http://www.ti.com/lit/sg/scyt129e/scyt129e.pdf; ki_description: Single FET Bus Switch
pins: 1 ~{{OE}}, 2 A, 3 GND, 4 B, 5 VCC

## 74LVC1G00
designator *  value 74LVC1G00  Reference: U
ki_keywords: Single Gate NAND LVC CMOS; ki_description: Single NAND Gate, Low-Voltage CMOS; ki_fp_filters: SOT?23* Texas?R-PDSO-G5?DCK* Texas?R-PDSO-N5?DRL* Texas?X2SON*0.8x0.8mm*P0.48mm*; Datasheet: https://www.ti.com/lit/ds/symlink/sn74lvc1g00.pdf
pins: 1, 2, 3 GND, 4, 5 VCC

## 74LVC1G02
designator *  value 74LVC1G02  Reference: U
ki_keywords: Single Gate NOR LVC CMOS; ki_description: Single NOR Gate, Low-Voltage CMOS; ki_fp_filters: SOT?23* Texas?R-PDSO-G5?DCK* Texas?R-PDSO-N5?DRL* Texas?X2SON*0.8x0.8mm*P0.48mm*; Datasheet: https://www.ti.com/lit/ds/symlink/sn74lvc1g02.pdf
pins: 1, 2, 3 GND, 4, 5 VCC

## 74LVC1G04
designator *  value 74LVC1G04  Reference: U
ki_keywords: Single Gate NOT LVC CMOS; ki_description: Single NOT Gate, Low-Voltage CMOS; ki_fp_filters: SOT?23* Texas?R-PDSO-G5?DCK* Texas?R-PDSO-N5?DRL* Texas?X2SON*0.8x0.8mm*P0.48mm*; Datasheet: https://www.ti.com/lit/ds/symlink/sn74lvc1g04.pdf
pins: 2, 3 GND, 4, 5 VCC

## 74LVC1G06
designator *  value 74LVC1G06  Reference: U
ki_keywords: Single Gate NOT LVC CMOS Open Drain; ki_description: Single NOT Gate w/ Open Drain, Low-Voltage CMOS; ki_fp_filters: SOT* SG-*; Datasheet: http://www.ti.com/lit/sg/scyt129e/scyt129e.pdf
pins: 2, 3 GND, 4, 5 VCC

## 74LVC1G07
designator *  value 74LVC1G07  Reference: U
ki_keywords: Single Gate Buff LVC CMOS Open Drain; ki_description: Single Buffer Gate w/ Open Drain, Low-Voltage CMOS; ki_fp_filters: SOT?23* Texas?R-PDSO-G5?DCK* Texas?R-PDSO-N5?DRL* Texas?X2SON*0.8x0.8mm*P0.48mm*; Datasheet: https://www.ti.com/lit/ds/symlink/sn74lvc1g07.pdf
pins: 1 NC, 2, 3 GND, 4, 5 VCC

## 74LVC1G08
designator *  value 74LVC1G08  Reference: U
ki_keywords: Single Gate AND LVC CMOS; ki_description: Single AND Gate, Low-Voltage CMOS; ki_fp_filters: SOT?23* Texas?R-PDSO-G5?DCK* Texas?R-PDSO-N5?DRL* Texas?X2SON*0.8x0.8mm*P0.48mm*; Datasheet: https://www.ti.com/lit/ds/symlink/sn74lvc1g08.pdf
pins: 1, 2, 3 GND, 4, 5 VCC

## 74LVC1G10
designator *  value 74LVC1G10  Reference: U
ki_keywords: Single Gate NAND triple LVC CMOS; ki_description: Single NAND 3 Input Gate, Low-Voltage CMOS; ki_fp_filters: SOT* SG-*; Datasheet: http://www.ti.com/lit/sg/scyt129e/scyt129e.pdf
pins: 1, 2 GND, 3, 4, 5 VCC, 6

## 74LVC1G11
designator *  value 74LVC1G11  Reference: U
ki_keywords: Single Gate AND triple LVC CMOS; ki_description: Single AND 3 Input Gate, Low-Voltage CMOS; ki_fp_filters: SOT* SG-*; Datasheet: http://www.ti.com/lit/sg/scyt129e/scyt129e.pdf
pins: 1, 2 GND, 3, 4, 5 VCC, 6

## 74LVC1G14
designator *  value 74LVC1G14  Reference: U
ki_keywords: Single Gate NOT Schmitt LVC CMOS; ki_description: Single Schmitt NOT Gate, Low-Voltage CMOS; ki_fp_filters: SOT* SG-*; Datasheet: http://www.ti.com/lit/sg/scyt129e/scyt129e.pdf
pins: 2, 3 GND, 4, 5 VCC

## 74LVC1G17
designator *  value 74LVC1G17  Reference: U
ki_keywords: Single Gate Buff Schmitt LVC CMOS; ki_description: Single Schmitt Buffer Gate, Low-Voltage CMOS; ki_fp_filters: SOT?23* Texas?R-PDSO-G5?DCK* Texas?R-PDSO-N5?DRL* Texas?X2SON*0.8x0.8mm*P0.48mm*; Datasheet: https://www.ti.com/lit/ds/symlink/sn74lvc1g17.pdf
pins: 1 NC, 2, 3 GND, 4, 5 VCC

## 74LVC1G18
designator *  value 74LVC1G18  Reference: U
ki_keywords: Single Demux LVC CMOS; ki_description: Single Demultiplexer, Low-Voltage CMOS; ki_fp_filters: SOT* SG-*; Datasheet: http://www.ti.com/lit/sg/scyt129e/scyt129e.pdf
part A pins: 1, 3, 4, 6
part B pins: 2 GND, 5 VCC

## 74LVC1G19
designator *  value 74LVC1G19  Reference: U
ki_keywords: Single Decoder LVC CMOS; ki_description: 1 of 2 Decoder, Low-Voltage CMOS; ki_fp_filters: SOT* SG-*; Datasheet: http://www.ti.com/lit/sg/scyt129e/scyt129e.pdf
pins: 1 A, 2 GND, 3 ~{{E}}, 4 Y1, 5 VCC, 6 Y0

## 74LVC1G27
designator *  value 74LVC1G27  Reference: U
ki_keywords: Single Gate NOR triple LVC CMOS; ki_description: Single NOR 3 Input Gate, Low-Voltage CMOS; ki_fp_filters: SOT* SG-*; Datasheet: http://www.ti.com/lit/sg/scyt129e/scyt129e.pdf
pins: 1, 2 GND, 3, 4, 5 VCC, 6

## 74LVC1G29
designator *  value 74LVC1G29  Reference: U
ki_keywords: Single Decoder LVC CMOS; ki_description: 2 of 3 Decoder, Low-Voltage CMOS; ki_fp_filters: SSOP* VSSOP*; Datasheet: http://www.ti.com/lit/sg/scyt129e/scyt129e.pdf
pins: 1 ~{{G}}, 2 Y1, 3 A2, 4 GND, 5 Y2, 6 A1, 7 Y0, 8 VCC

## 74LVC1G32
designator *  value 74LVC1G32  Reference: U
ki_keywords: Single Gate OR LVC CMOS; ki_description: Single OR Gate, Low-Voltage CMOS; ki_fp_filters: SOT* SG-*; Datasheet: http://www.ti.com/lit/sg/scyt129e/scyt129e.pdf
pins: 1, 2, 3 GND, 4, 5 VCC

## 74LVC1G34
designator *  value 74LVC1G34  Reference: U
ki_keywords: Single Gate Buff LVC CMOS; ki_description: Single Buffef Gate, Low-Voltage CMOS; ki_fp_filters: SOT?23* Texas?R-PDSO-G5?DCK* Texas?R-PDSO-N5?DRL* Texas?X2SON*0.8x0.8mm*P0.48mm*; Datasheet: https://www.ti.com/lit/ds/symlink/sn74lvc1g34.pdf
pins: 1 NC, 2, 3 GND, 4, 5 VCC

## 74LVC1G38
designator *  value 74LVC1G38  Reference: U
ki_keywords: Single Gate NAND Open Drain LVC CMOS; ki_description: Single NAND Gate Open Drain, Low-Voltage CMOS; ki_fp_filters: SOT* SG-*; Datasheet: http://www.ti.com/lit/sg/scyt129e/scyt129e.pdf
pins: 1, 2, 3 GND, 4, 5 VCC

## 74LVC1G57
designator *  value 74LVC1G57  Reference: U
ki_keywords: Configurable Single Gate LVC CMOS; ki_description: Configurable Multi-Function Single Gate, Low-Voltage CMOS; ki_fp_filters: SOT* SC*; Datasheet: http://www.ti.com/lit/sg/scyt129e/scyt129e.pdf
pins: 1 IN1, 2 GND, 3 IN0, 4 Y, 5 VCC, 6 IN2

## 74LVC1G58
designator *  value 74LVC1G58  Reference: U
ki_keywords: Configurable Single Gate LVC CMOS; ki_description: Configurable Multi-Function Single Gate, Low-Voltage CMOS; ki_fp_filters: SOT* SC*; Datasheet: http://www.ti.com/lit/sg/scyt129e/scyt129e.pdf
pins: 1 IN1, 2 GND, 3 IN0, 4 ~{{Y}}, 5 VCC, 6 IN2

## 74LVC1G66
designator *  value 74LVC1G66  Reference: U
ki_keywords: Single Bilateral Analog Switch; ki_description: Single Bilateral Analog Switch, SOT-23-5/SC-70-5; ki_fp_filters: SOT* SC*; Datasheet: http://www.ti.com/lit/ds/symlink/sn74lvc1g66.pdf
part A pins: 1, 2, 4
part B pins: 3 GND, 5 VCC

## 74LVC1G79
designator *  value 74LVC1G79  Reference: U
ki_keywords: Single D Flip-Flop D CMOS; ki_description: Single D Flip-Flop, Low-Voltage CMOS; ki_fp_filters: SOT* SG*; Datasheet: http://www.ti.com/lit/sg/scyt129e/scyt129e.pdf
pins: 1 D, 2 C, 3 GND, 4 Q, 5 VCC

## 74LVC1G80
designator *  value 74LVC1G80  Reference: U
ki_keywords: Single D Flip-Flop CMOS; ki_description: Single D Flip-Flop Iverted Output, Low-Voltage CMOS; ki_fp_filters: SOT* SG*; Datasheet: http://www.ti.com/lit/sg/scyt129e/scyt129e.pdf
pins: 1 D, 2 C, 3 GND, 4 ~{{Q}}, 5 VCC

## 74LVC1G86
designator *  value 74LVC1G86  Reference: U
ki_keywords: Single Gate EX-OR LVC CMOS; ki_description: Single EX-OR Gate, Low-Voltage CMOS; ki_fp_filters: SOT* SG-*; Datasheet: http://www.ti.com/lit/sg/scyt129e/scyt129e.pdf
pins: 1, 2, 3 GND, 4, 5 VCC

## 74LVC1G97
designator *  value 74LVC1G97  Reference: U
ki_keywords: Configurable Single Gate LVC CMOS; ki_description: Configurable Multi-Function Single Gate, Low-Voltage CMOS; ki_fp_filters: SOT* SC*; Datasheet: http://www.ti.com/lit/sg/scyt129e/scyt129e.pdf
pins: 1 IN1, 2 GND, 3 IN0, 4 Y, 5 VCC, 6 IN2

## 74LVC1G98
designator *  value 74LVC1G98  Reference: U
ki_keywords: Configurable Single Gate LVC CMOS; ki_description: Configurable Multi-Function Single Gate, Low-Voltage CMOS; ki_fp_filters: SOT* SC*; Datasheet: http://www.ti.com/lit/sg/scyt129e/scyt129e.pdf
pins: 1 IN1, 2 GND, 3 IN0, 4 ~{{Y}}, 5 VCC, 6 IN2

## 74LVC1G99
designator *  value 74LVC1G99  Reference: U
ki_keywords: Configurable Single Gate LVC CMOS; ki_description: Configurable Multi-Function Single Gate, Low-Voltage CMOS; ki_fp_filters: SSOP* VSSOP*; Datasheet: https://www.ti.com/lit/gpn/sn74lvc1g99
pins: 1 ~{{OE}}, 2 A, 3 B, 4 GND, 5 C, 6 D, 7 Y, 8 VCC

## 74LVC1G123
designator *  value 74LVC1G123  Reference: U
ki_keywords: Single Mono Multivibrator CMOS; ki_description: Single Retrigerrable Monostabile Multivibrator, Low-Voltage CMOS; ki_fp_filters: SSOP*2.95x2.8mm*P0.65* VSSOP*2.3x2mm*P0.5mm*; Datasheet: http://www.ti.com/lit/ds/symlink/sn74lvc1g123.pdf
part A pins: 1 ~{{A}}, 2 B, 3 ~{{CLR}}, 5 Q, 6 Cext, 7 RCext
part B pins: 4 GND, 8 VCC

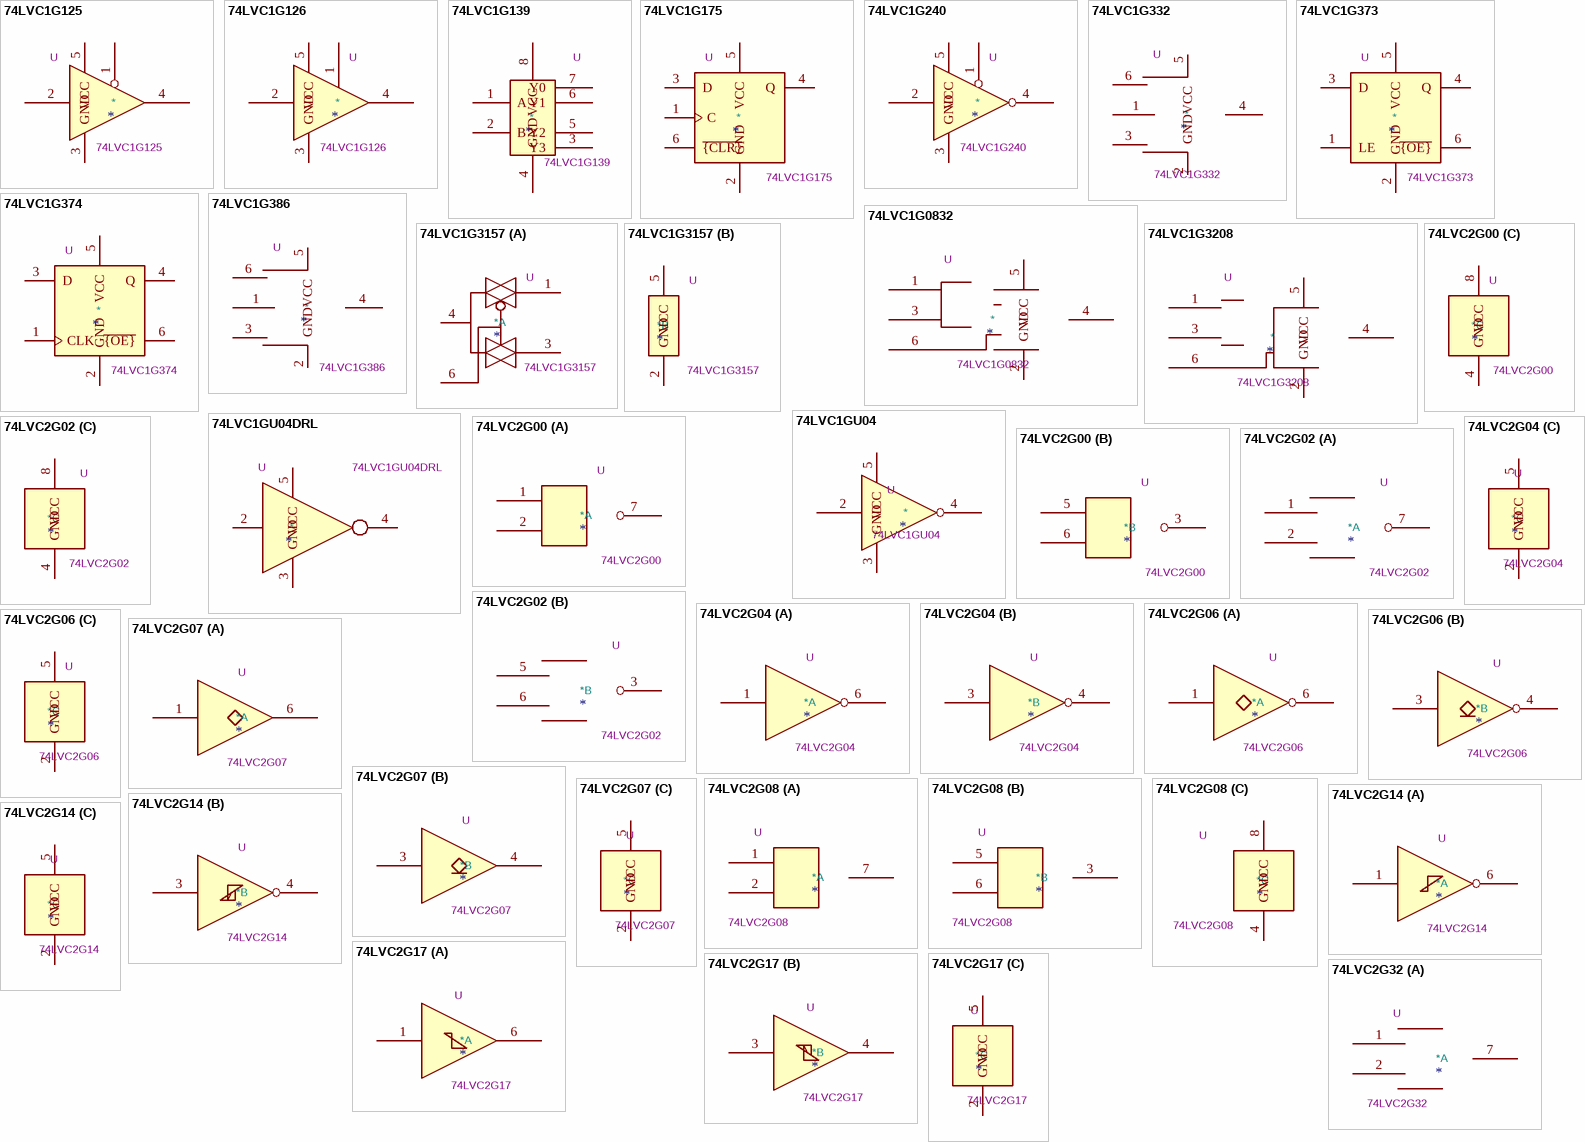
[diagram p4: symbols 74LVC1G125 to 74LVC2G32]

## 74LVC1G125
designator *  value 74LVC1G125  Reference: U
ki_keywords: Single Gate Buff Tri-State LVC CMOS; ki_description: Single Buffer Gate Tri-State, Low-Voltage CMOS; ki_fp_filters: SOT?23* Texas?R-PDSO-G5?DCK* Texas?R-PDSO-N5?DRL* Texas?X2SON*0.8x0.8mm*P0.48mm*; Datasheet: https://www.ti.com/lit/ds/symlink/sn74lvc1g125.pdf
pins: 1, 2, 3 GND, 4, 5 VCC

## 74LVC1G126
designator *  value 74LVC1G126  Reference: U
ki_keywords: Single Gate Buff Tri-State LVC CMOS; ki_description: Single Buffer Gate Tri-State, Low-Voltage CMOS; ki_fp_filters: SOT* SG-*; Datasheet: http://www.ti.com/lit/sg/scyt129e/scyt129e.pdf
pins: 1, 2, 3 GND, 4, 5 VCC

## 74LVC1G139
designator *  value 74LVC1G139  Reference: U
ki_keywords: Single Decoder LVC CMOS; ki_description: 2 to 4 Decoder, Low-Voltage CMOS; ki_fp_filters: SSOP* VSSOP*; Datasheet: http://www.ti.com/lit/sg/scyt129e/scyt129e.pdf
pins: 1 A, 2 B, 3 Y3, 4 GND, 5 Y2, 6 Y1, 7 Y0, 8 VCC

## 74LVC1G175
designator *  value 74LVC1G175  Reference: U
ki_keywords: Single D Flip-Flop Clear CMOS; ki_description: Single D Flip-Flop w/ Asnynchronus Clear, Low-Voltage CMOS; ki_fp_filters: SOT* SC*; Datasheet: http://www.ti.com/lit/sg/scyt129e/scyt129e.pdf
pins: 1 C, 2 GND, 3 D, 4 Q, 5 VCC, 6 ~{{CLR}}

## 74LVC1G240
designator *  value 74LVC1G240  Reference: U
ki_keywords: Single Gate Buff/Drv Tri-State LVC CMOS; ki_description: Single Buffer/Driver Gate Tri-State, Low-Voltage CMOS; ki_fp_filters: SOT* SG-*; Datasheet: http://www.ti.com/lit/sg/scyt129e/scyt129e.pdf
pins: 1, 2, 3 GND, 4, 5 VCC

## 74LVC1G332
designator *  value 74LVC1G332  Reference: U
ki_keywords: Single Gate OR triple LVC CMOS; ki_description: Single OR 3 Input Gate, Low-Voltage CMOS; ki_fp_filters: SOT* SG-*; Datasheet: http://www.ti.com/lit/sg/scyt129e/scyt129e.pdf
pins: 1, 2 GND, 3, 4, 5 VCC, 6

## 74LVC1G373
designator *  value 74LVC1G373  Reference: U
ki_keywords: Single D Latch CMOS; ki_description: Single D Latch, Low-Voltage CMOS; ki_fp_filters: SOT* SC*; Datasheet: http://www.ti.com/lit/sg/scyt129e/scyt129e.pdf
pins: 1 LE, 2 GND, 3 D, 4 Q, 5 VCC, 6 ~{{OE}}

## 74LVC1G374
designator *  value 74LVC1G374  Reference: U
ki_keywords: Single D Flip-Flop Tri-State CMOS; ki_description: Single D Flip-Flop Tri-State Output, Low-Voltage CMOS; ki_fp_filters: SOT* SC*; Datasheet: http://www.ti.com/lit/sg/scyt129e/scyt129e.pdf
pins: 1 CLK, 2 GND, 3 D, 4 Q, 5 VCC, 6 ~{{OE}}

## 74LVC1G386
designator *  value 74LVC1G386  Reference: U
ki_keywords: Single Gate EX-OR triple LVC CMOS; ki_description: Single EX-OR 3 Input Gate, Low-Voltage CMOS; ki_fp_filters: SOT* SG-*; Datasheet: http://www.ti.com/lit/sg/scyt129e/scyt129e.pdf
pins: 1, 2 GND, 3, 4, 5 VCC, 6

## 74LVC1G0832
designator *  value 74LVC1G0832  Reference: U
ki_keywords: Single Gate AND-OR LVC CMOS; ki_description: Single AND-OR Gate, Low-Voltage CMOS; ki_fp_filters: SOT* SG-*; Datasheet: http://www.ti.com/lit/sg/scyt129e/scyt129e.pdf
pins: 1, 2 GND, 3, 4, 5 VCC, 6

## 74LVC1G3157
designator *  value 74LVC1G3157  Reference: U
ki_keywords: SPDT Analog Switch CMOS; ki_description: SPDT Analog Switch, Low-Voltage CMOS; ki_fp_filters: SOT* SC*; Datasheet: http://www.ti.com/lit/sg/scyt129e/scyt129e.pdf
part A pins: 1, 3, 4, 6
part B pins: 2 GND, 5 VCC

## 74LVC1G3208
designator *  value 74LVC1G3208  Reference: U
ki_keywords: Single Gate OR-AND LVC CMOS; ki_description: Single OR-AND Gate, Low-Voltage CMOS; ki_fp_filters: SOT* SG-*; Datasheet: http://www.ti.com/lit/sg/scyt129e/scyt129e.pdf
pins: 1, 2 GND, 3, 4, 5 VCC, 6

## 74LVC1GU04
designator *  value 74LVC1GU04  Reference: U
ki_keywords: Single Gate NOT LVC CMOS; ki_description: 74LVC1G04, Single NOT Gate, Low-Voltage CMOS; ki_fp_filters: SOT* SG-*; Datasheet: http://www.ti.com/lit/sg/scyt129e/scyt129e.pdf
pins: 2, 3 GND, 4, 5 VCC

## 74LVC1GU04DRL
designator *  value 74LVC1GU04DRL  Reference: U
ki_keywords: inverter cmos; ki_description: Single Inverter Gate, SOT-553; ki_fp_filters: SOT*553*; Footprint: Package_TO_SOT_SMD:SOT-553; Datasheet: http://www.ti.com/lit/ds/symlink/sn74lvc1gu04.pdf
pins: 1 NC hidden, 2, 3 GND, 4, 5 VCC

## 74LVC2G00
designator *  value 74LVC2G00  Reference: U
ki_keywords: Dual Gate NAND LVC CMOS; ki_description: Dual NAND Gate, Low-Voltage CMOS; ki_fp_filters: SSOP* VSSOP*; Datasheet: http://www.ti.com/lit/sg/scyt129e/scyt129e.pdf
part A pins: 1, 2, 7
part B pins: 3, 5, 6
part C pins: 4 GND, 8 VCC

## 74LVC2G02
designator *  value 74LVC2G02  Reference: U
ki_keywords: Dual Gate NOR LVC CMOS; ki_description: Dual NOR Gate, Low-Voltage CMOS; ki_fp_filters: SSOP* VSSOP*; Datasheet: http://www.ti.com/lit/sg/scyt129e/scyt129e.pdf
part A pins: 1, 2, 7
part B pins: 3, 5, 6
part C pins: 4 GND, 8 VCC

## 74LVC2G04
designator *  value 74LVC2G04  Reference: U
ki_keywords: Dual Gate NOT LVC CMOS; ki_description: Dual NOT Gate, Low-Voltage CMOS; ki_fp_filters: SG-* SOT*; Datasheet: http://www.ti.com/lit/sg/scyt129e/scyt129e.pdf
part A pins: 1, 6
part B pins: 3, 4
part C pins: 2 GND, 5 VCC

## 74LVC2G06
designator *  value 74LVC2G06  Reference: U
ki_keywords: Dual Gate NOT Open Drain LVC CMOS; ki_description: Dual NOT Gate w/ Open Drain, Low-Voltage CMOS; ki_fp_filters: SG-* SOT*; Datasheet: http://www.ti.com/lit/sg/scyt129e/scyt129e.pdf
part A pins: 1, 6
part B pins: 3, 4
part C pins: 2 GND, 5 VCC

## 74LVC2G07
designator *  value 74LVC2G07  Reference: U
ki_keywords: Dual Gate Buffer Open Drain LVC CMOS; ki_description: Dual Buffer w/ Open Drain, Low-Voltage CMOS; ki_fp_filters: SG-* SOT*; Datasheet: http://www.ti.com/lit/sg/scyt129e/scyt129e.pdf
part A pins: 1, 6
part B pins: 3, 4
part C pins: 2 GND, 5 VCC

## 74LVC2G08
designator *  value 74LVC2G08  Reference: U
ki_keywords: Dual Gate AND LVC CMOS; ki_description: Dual AND Gate, Low-Voltage CMOS; ki_fp_filters: SSOP* VSSOP*; Datasheet: http://www.ti.com/lit/sg/scyt129e/scyt129e.pdf
part A pins: 1, 2, 7
part B pins: 3, 5, 6
part C pins: 4 GND, 8 VCC

## 74LVC2G14
designator *  value 74LVC2G14  Reference: U
ki_keywords: Dual Gate NOT Schmitt LVC CMOS; ki_description: Dual NOT Gate Schmitt Triggered, Low-Voltage CMOS; ki_fp_filters: SG-* SOT*; Datasheet: https://www.ti.com/lit/ds/symlink/sn74lvc2g14.pdf
part A pins: 1, 6
part B pins: 3, 4
part C pins: 2 GND, 5 VCC

## 74LVC2G17
designator *  value 74LVC2G17  Reference: U
ki_keywords: Dual Buffer Schmitt LVC CMOS; ki_description: Dual Buffer Schmitt Triggered, Low-Voltage CMOS; ki_fp_filters: SG-* SOT*; Datasheet: http://www.ti.com/lit/sg/scyt129e/scyt129e.pdf
part A pins: 1, 6
part B pins: 3, 4
part C pins: 2 GND, 5 VCC

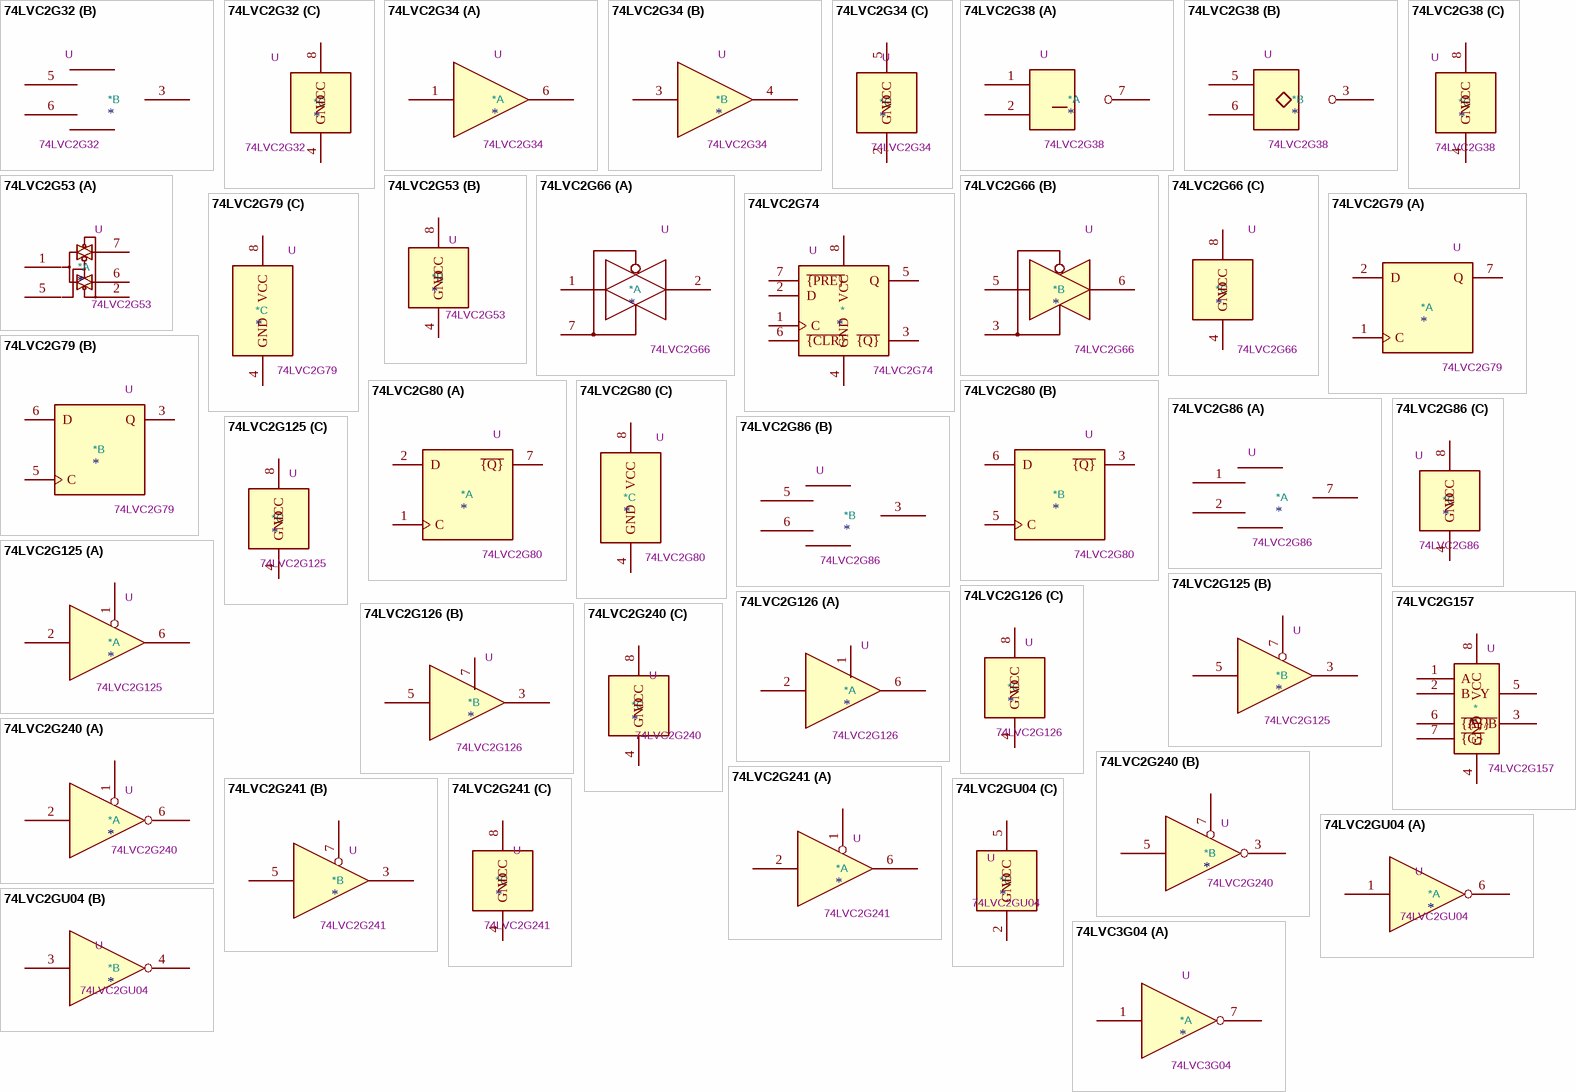
[diagram p5: symbols 74LVC2G32 to 74LVC3G04]

## 74LVC2G32
designator *  value 74LVC2G32  Reference: U
ki_keywords: Dual Gate OR LVC CMOS; ki_description: Dual OR Gate, Low-Voltage CMOS; ki_fp_filters: SSOP* VSSOP*; Datasheet: http://www.ti.com/lit/sg/scyt129e/scyt129e.pdf
part A pins: 1, 2, 7
part B pins: 3, 5, 6
part C pins: 4 GND, 8 VCC

## 74LVC2G34
designator *  value 74LVC2G34  Reference: U
ki_keywords: Dual Buffer LVC CMOS; ki_description: Dual Buffer, Low-Voltage CMOS; ki_fp_filters: SG-* SOT*; Datasheet: http://www.ti.com/lit/sg/scyt129e/scyt129e.pdf
part A pins: 1, 6
part B pins: 3, 4
part C pins: 2 GND, 5 VCC

## 74LVC2G38
designator *  value 74LVC2G38  Reference: U
ki_keywords: Dual Gate NAND Open Drain LVC CMOS; ki_description: Dual NAND Gate w/ Open Drain, Low-Voltage CMOS; ki_fp_filters: SSOP* VSSOP*; Datasheet: http://www.ti.com/lit/sg/scyt129e/scyt129e.pdf
part A pins: 1, 2, 7
part B pins: 3, 5, 6
part C pins: 4 GND, 8 VCC

## 74LVC2G53
designator *  value 74LVC2G53  Reference: U
ki_keywords: Analog Switch 1 to 2 CMOS; ki_description: 1 to 2 Analog Switch Mux/Demux, Low-Voltage CMOS; ki_fp_filters: SSOP* VSSOP*; Datasheet: http://www.ti.com/lit/sg/scyt129e/scyt129e.pdf
part A pins: 1, 2, 5, 6, 7
part B pins: 3 GND hidden, 4 GND, 8 VCC

## 74LVC2G66
designator *  value 74LVC2G66  Reference: U
ki_keywords: Dual Analog Switch; ki_fp_filters: SSOP* VSSOP*; Datasheet: http://www.ti.com/lit/sg/scyt129e/scyt129e.pdf; ki_description: Dual Analog Switch
part A pins: 1, 2, 7
part B pins: 3, 5, 6
part C pins: 4 GND, 8 VCC

## 74LVC2G74
designator *  value 74LVC2G74  Reference: U
ki_keywords: Single D Flip-Flop D CMOS; ki_description: 74AUC1G74, Single D Flip-Flop, Low-Voltage CMOS; ki_fp_filters: SSOP* VSSOP*; Datasheet: http://www.ti.com/lit/sg/scyt129e/scyt129e.pdf
pins: 1 C, 2 D, 3 ~{{Q}}, 4 GND, 5 Q, 6 ~{{CLR}}, 7 ~{{PRE}}, 8 VCC

## 74LVC2G79
designator *  value 74LVC2G79  Reference: U
ki_keywords: Dual D Flip-Flop D CMOS; ki_description: Dual D Flip-Flop, Low-Voltage CMOS; ki_fp_filters: SSOP* VSSOP*; Datasheet: http://www.ti.com/lit/sg/scyt129e/scyt129e.pdf
part A pins: 1 C, 2 D, 7 Q
part B pins: 3 Q, 5 C, 6 D
part C pins: 4 GND, 8 VCC

## 74LVC2G80
designator *  value 74LVC2G80  Reference: U
ki_keywords: Dual D Flip-Flop Negative CMOS; ki_description: Dual D Flip-Flop w/ Negative Output, Low-Voltage CMOS; ki_fp_filters: SSOP* VSSOP*; Datasheet: http://www.ti.com/lit/sg/scyt129e/scyt129e.pdf
part A pins: 1 C, 2 D, 7 ~{{Q}}
part B pins: 3 ~{{Q}}, 5 C, 6 D
part C pins: 4 GND, 8 VCC

## 74LVC2G86
designator *  value 74LVC2G86  Reference: U
ki_keywords: Dual Gate EX-OR LVC CMOS; ki_description: Dual EX-OR Gate, Low-Voltage CMOS; ki_fp_filters: SSOP* VSSOP*; Datasheet: http://www.ti.com/lit/sg/scyt129e/scyt129e.pdf
part A pins: 1, 2, 7
part B pins: 3, 5, 6
part C pins: 4 GND, 8 VCC

## 74LVC2G125
designator *  value 74LVC2G125  Reference: U
ki_keywords: Dual Buff Tri-State LVC CMOS; ki_description: Dual Buffer Tri-State, Low-Voltage CMOS; ki_fp_filters: VSSOP*; Datasheet: http://www.ti.com/lit/sg/scyt129e/scyt129e.pdf
part A pins: 1, 2, 6
part B pins: 3, 5, 7
part C pins: 4 GND, 8 VCC

## 74LVC2G126
designator *  value 74LVC2G126  Reference: U
ki_keywords: Dual Buff Tri-State LVC CMOS; ki_description: Dual Buffer Tri-State, Low-Voltage CMOS; ki_fp_filters: VSSOP*; Datasheet: http://www.ti.com/lit/sg/scyt129e/scyt129e.pdf
part A pins: 1, 2, 6
part B pins: 3, 5, 7
part C pins: 4 GND, 8 VCC

## 74LVC2G157
designator *  value 74LVC2G157  Reference: U
ki_keywords: Single Mux CMOS; ki_description: Single 2 to 1 Multiplexer, Low-Voltage CMOS; ki_fp_filters: SSOP* VSSOP*; Datasheet: http://www.ti.com/lit/sg/scyt129e/scyt129e.pdf
pins: 1 A, 2 B, 3 ~{{Y}}, 4 GND, 5 Y, 6 ~{{A}/B}, 7 ~{{G}}, 8 VCC

## 74LVC2G240
designator *  value 74LVC2G240  Reference: U
ki_keywords: Dual Inv Buff Tri-State LVC CMOS; ki_description: Dual Inverter Buffer Tri-State, Low-Voltage CMOS; ki_fp_filters: VSSOP*; Datasheet: http://www.ti.com/lit/sg/scyt129e/scyt129e.pdf
part A pins: 1, 2, 6
part B pins: 3, 5, 7
part C pins: 4 GND, 8 VCC

## 74LVC2G241
designator *  value 74LVC2G241  Reference: U
ki_keywords: Dual Buff Tri-State LVC CMOS; ki_description: Dual Buffer Tri-State, Low-Voltage CMOS; ki_fp_filters: VSSOP*; Datasheet: http://www.ti.com/lit/sg/scyt129e/scyt129e.pdf
part A pins: 1, 2, 6
part B pins: 3, 5, 7
part C pins: 4 GND, 8 VCC

## 74LVC2GU04
designator *  value 74LVC2GU04  Reference: U
ki_keywords: Dual Gate NOT LVC CMOS; ki_description: 74LVC2G04, Dual NOT Gate, Low-Voltage CMOS; ki_fp_filters: SG-* SOT*; Datasheet: http://www.ti.com/lit/sg/scyt129e/scyt129e.pdf
part A pins: 1, 6
part B pins: 3, 4
part C pins: 2 GND, 5 VCC

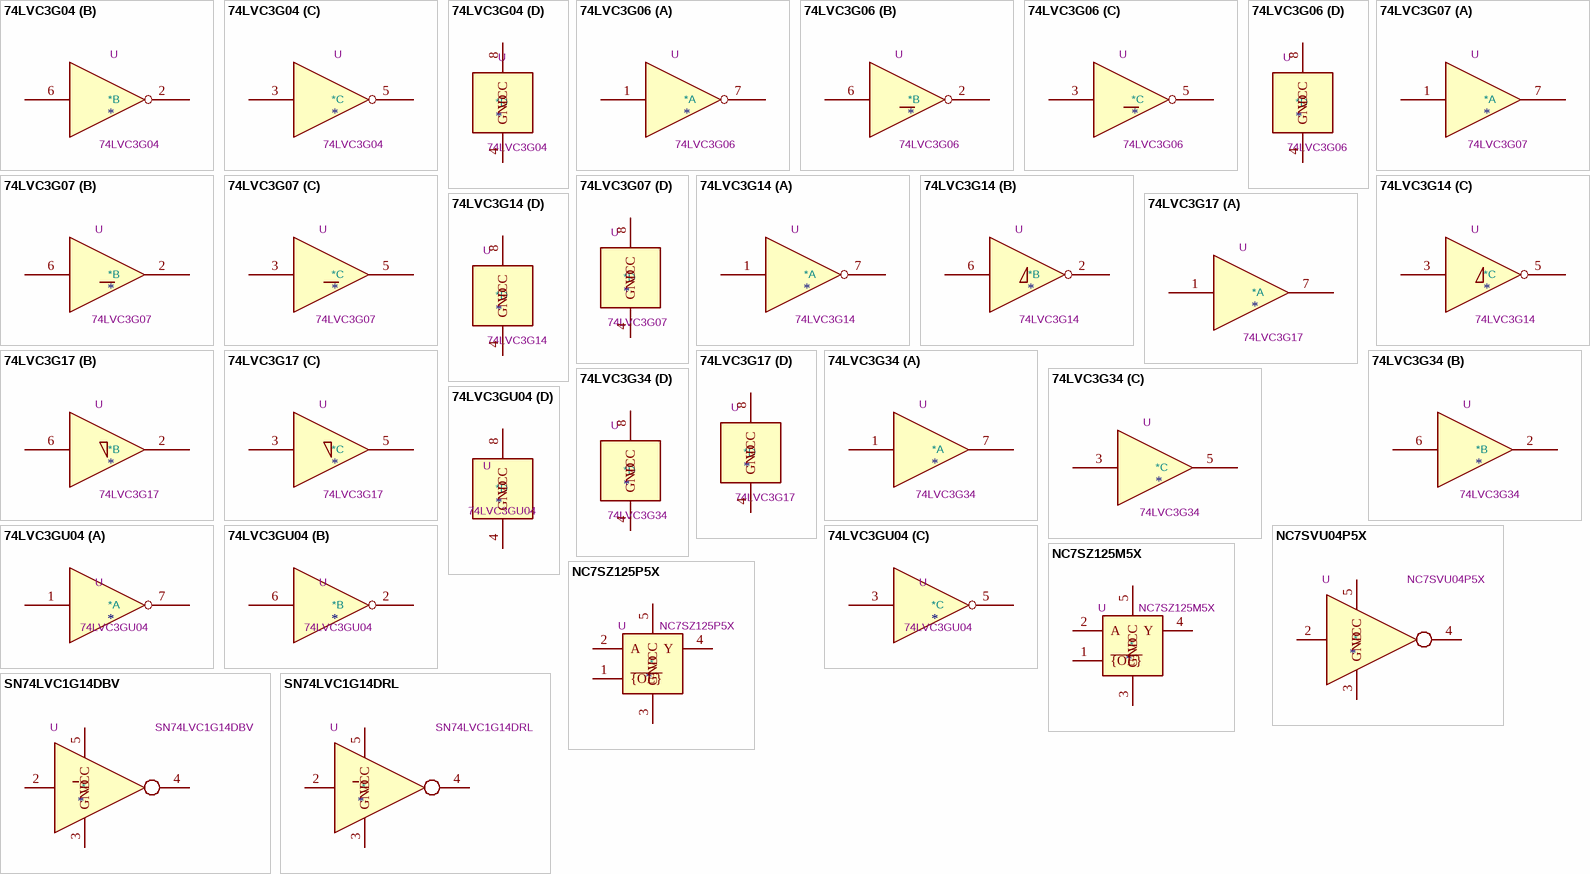
[diagram p6: symbols 74LVC3G04 to SN74LVC1G14DRL]

## 74LVC3G04
designator *  value 74LVC3G04  Reference: U
ki_keywords: Triple Gate NOT LVC CMOS; ki_description: Triple NOT Gate, Low-Voltage CMOS; ki_fp_filters: SSOP* VSSOP*; Datasheet: http://www.ti.com/lit/sg/scyt129e/scyt129e.pdf
part A pins: 1, 7
part B pins: 2, 6
part C pins: 3, 5
part D pins: 4 GND, 8 VCC

## 74LVC3G06
designator *  value 74LVC3G06  Reference: U
ki_keywords: Triple Gate NOT Open Drain LVC CMOS; ki_description: Triple NOT Gate w/ Open Drain, Low-Voltage CMOS; ki_fp_filters: SSOP* VSSOP*; Datasheet: http://www.ti.com/lit/sg/scyt129e/scyt129e.pdf
part A pins: 1, 7
part B pins: 2, 6
part C pins: 3, 5
part D pins: 4 GND, 8 VCC

## 74LVC3G07
designator *  value 74LVC3G07  Reference: U
ki_keywords: Triple Buff Open Drain LVC CMOS; ki_description: Triple Buffer w/ Open Drain, Low-Voltage CMOS; ki_fp_filters: SSOP* VSSOP*; Datasheet: http://www.ti.com/lit/sg/scyt129e/scyt129e.pdf
part A pins: 1, 7
part B pins: 2, 6
part C pins: 3, 5
part D pins: 4 GND, 8 VCC

## 74LVC3G14
designator *  value 74LVC3G14  Reference: U
ki_keywords: Triple NOT Schmitt LVC CMOS; ki_description: Triple NOT Gate Schmitt, Low-Voltage CMOS; ki_fp_filters: SSOP* VSSOP*; Datasheet: https://www.ti.com/lit/ds/symlink/sn74lvc3g14.pdf
part A pins: 1, 7
part B pins: 2, 6
part C pins: 3, 5
part D pins: 4 GND, 8 VCC

## 74LVC3G17
designator *  value 74LVC3G17  Reference: U
ki_keywords: Triple Buf Schmitt LVC CMOS; ki_description: Triple Buffer Schmitt, Low-Voltage CMOS; ki_fp_filters: SSOP* VSSOP*; Datasheet: http://www.ti.com/lit/sg/scyt129e/scyt129e.pdf
part A pins: 1, 7
part B pins: 2, 6
part C pins: 3, 5
part D pins: 4 GND, 8 VCC

## 74LVC3G34
designator *  value 74LVC3G34  Reference: U
ki_keywords: Triple Buf LVC CMOS; ki_description: Triple Buffer, Low-Voltage CMOS; ki_fp_filters: SSOP* VSSOP*; Datasheet: http://www.ti.com/lit/sg/scyt129e/scyt129e.pdf
part A pins: 1, 7
part B pins: 2, 6
part C pins: 3, 5
part D pins: 4 GND, 8 VCC

## 74LVC3GU04
designator *  value 74LVC3GU04  Reference: U
ki_keywords: Triple Gate NOT LVC CMOS; ki_description: 74LVC3G04, Triple NOT Gate, Low-Voltage CMOS; ki_fp_filters: SSOP* VSSOP*; Datasheet: http://www.ti.com/lit/sg/scyt129e/scyt129e.pdf
part A pins: 1, 7
part B pins: 2, 6
part C pins: 3, 5
part D pins: 4 GND, 8 VCC

## NC7SVU04P5X
designator *  value NC7SVU04P5X  Reference: U
ki_keywords: inverter; ki_description: High-Speed Logic Inverter, SOT-353; ki_fp_filters: SOT*353*SC*70*; Footprint: Package_TO_SOT_SMD:SOT-353_SC-70-5; Datasheet: https://www.onsemi.com/pub/Collateral/NC7SVU04-D.pdf
pins: 1 NC hidden, 2, 3 GND, 4, 5 VCC

## NC7SZ125M5X
designator *  value NC7SZ125M5X  Reference: U
ki_keywords: buffer three-state; ki_description: TinyLogic UHS Buffer with Three-State Output, SOT-23-5; ki_fp_filters: SOT?23*; Footprint: Package_TO_SOT_SMD:SOT-23-5; Datasheet: https://www.onsemi.com/pdf/datasheet/nc7sz125-d.pdf
pins: 1 ~{{OE}}, 2 A, 3 GND, 4 Y, 5 VCC

## NC7SZ125P5X
designator *  value NC7SZ125P5X  Reference: U
ki_keywords: buffer three-state; ki_description: TinyLogic UHS Buffer with Three-State Output, SOT-353; ki_fp_filters: SOT*353*; Footprint: Package_TO_SOT_SMD:SOT-353_SC-70-5; Datasheet: https://www.onsemi.com/pdf/datasheet/nc7sz125-d.pdf
pins: 1 ~{{OE}}, 2 A, 3 GND, 4 Y, 5 VCC

## SN74LVC1G14DBV
designator *  value SN74LVC1G14DBV  Reference: U
ki_keywords: Inverter Schmitt Trigger; ki_description: Single Schmitt-Trigger Inverter, SOT-23; ki_fp_filters: SOT?23*; Footprint: Package_TO_SOT_SMD:SOT-23-5; Datasheet: http://www.ti.com/lit/ds/symlink/sn74lvc1g14.pdf
pins: 1 NC hidden, 2, 3 GND, 4, 5 VCC

## SN74LVC1G14DRL
designator *  value SN74LVC1G14DRL  Reference: U
ki_keywords: Inverter Schmitt Trigger; ki_description: Single Schmitt-Trigger Inverter, SOT-553; ki_fp_filters: SOT?553*; Footprint: Package_TO_SOT_SMD:SOT-553; Datasheet: http://www.ti.com/lit/ds/symlink/sn74lvc1g14.pdf
pins: 1 NC hidden, 2, 3 GND, 4, 5 VCC